# Altium integrated library Xilinx CoolRunner II.IntLib: 88 symbols (part 2 of 5)
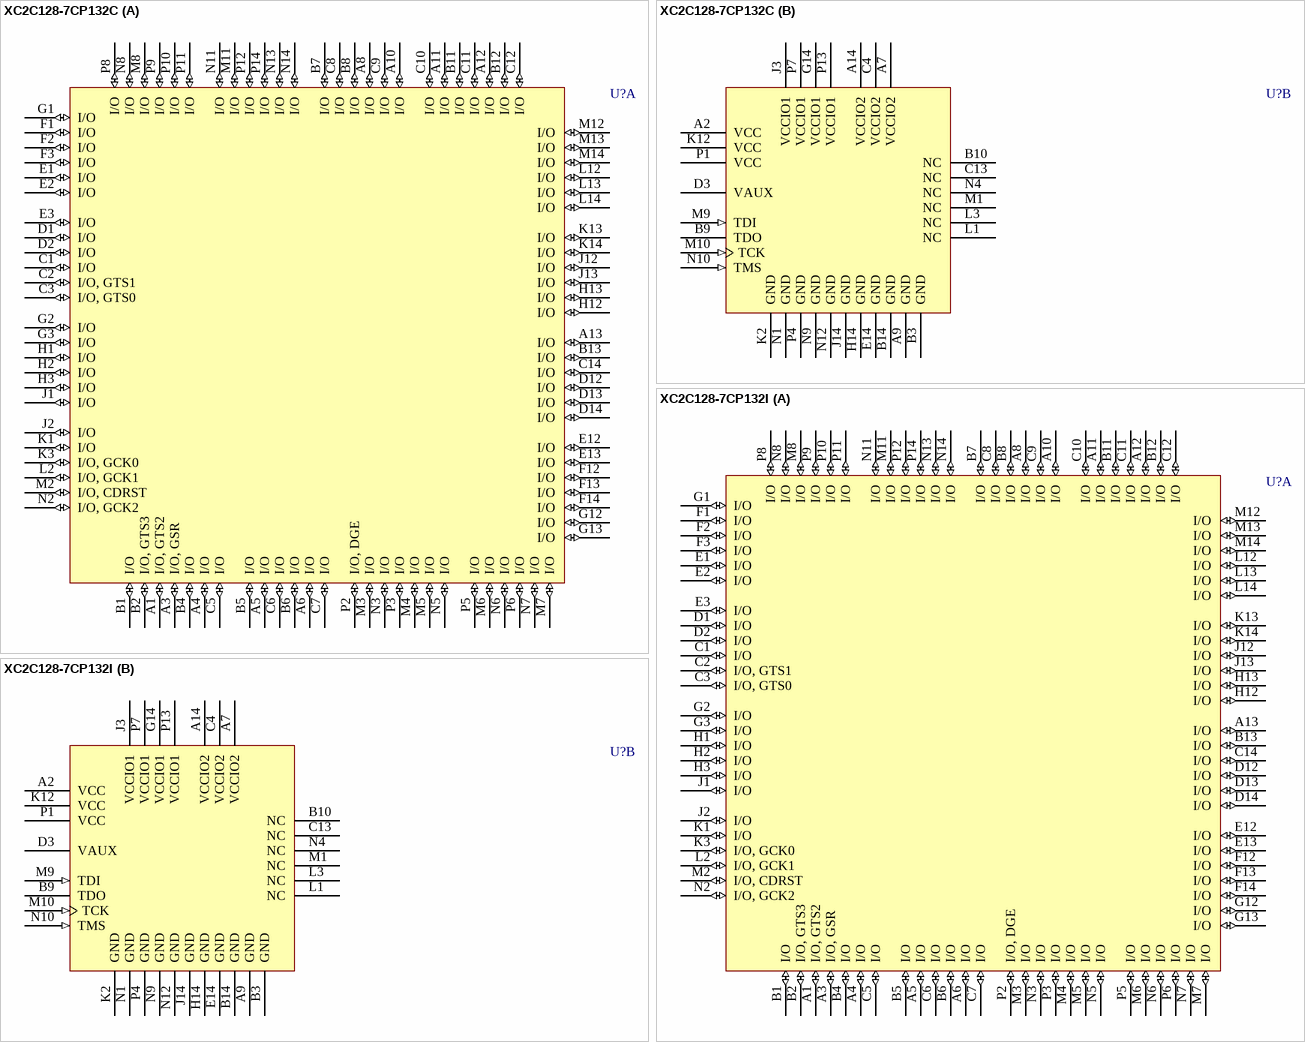
[diagram p41: symbols XC2C128-7CP132C to XC2C128-7CP132I]

## XC2C128-7CP132C
designator U?
CoolRunner-II, 1.8V, 128 Macrocell CPLD, 132-Ball CSP, Commercial Grade; PackageDocument: ver1.2, Apr-2002; Published: 23-Sep-2002; DatasheetDocument: ver2.3, Mar-2004; PackageReference: CP132; Publisher: Altium Limited
footprint CP132 (132-Ball Chip Scale Ball Grid Array 0.5mm Pitch (CP132))
3D model XC2C128-CP132 (132-Ball Chip Scale Ball Grid Array 0.5mm Pitch (CP132))
signal-integrity model XC2C128_CP132 (CoolRunner-II)
part A pins: A1 I/O, GTS2 (io), A3 I/O, GSR (io), A4 I/O (io), A5 I/O (io), A6 I/O (io), A8 I/O (io), A10 I/O (io), A11 I/O (io), A12 I/O (io), A13 I/O (io), B1 I/O (io), B2 I/O, GTS3 (io), B4 I/O (io), B5 I/O (io), B6 I/O (io), B7 I/O (io), B8 I/O (io), B11 I/O (io), B12 I/O (io), B13 I/O (io), C1 I/O (io), C2 I/O, GTS1 (io), C3 I/O, GTS0 (io), C5 I/O (io), C6 I/O (io), C7 I/O (io), C8 I/O (io), C9 I/O (io), C10 I/O (io), C11 I/O (io), C12 I/O (io), C14 I/O (io), D1 I/O (io), D2 I/O (io), D12 I/O (io), D13 I/O (io), D14 I/O (io), E1 I/O (io), E2 I/O (io), E3 I/O (io), E12 I/O (io), E13 I/O (io), F1 I/O (io), F2 I/O (io), F3 I/O (io), F12 I/O (io), F13 I/O (io), F14 I/O (io), G1 I/O (io), G2 I/O (io), G3 I/O (io), G12 I/O (io), G13 I/O (io), H1 I/O (io), H2 I/O (io), H3 I/O (io), H12 I/O (io), H13 I/O (io), J1 I/O (io), J2 I/O (io), J12 I/O (io), J13 I/O (io), K1 I/O (io), K3 I/O, GCK0 (io), K13 I/O (io), K14 I/O (io), L2 I/O, GCK1 (io), L12 I/O (io), L13 I/O (io), L14 I/O (io), M2 I/O, CDRST (io), M3 I/O (io), M4 I/O (io), M5 I/O (io), M6 I/O (io), M7 I/O (io), M8 I/O (io), M11 I/O (io), M12 I/O (io), M13 I/O (io), M14 I/O (io), N2 I/O, GCK2 (io), N3 I/O (io), N5 I/O (io), N6 I/O (io), N7 I/O (io), N8 I/O (io), N11 I/O (io), N13 I/O (io), N14 I/O (io), P2 I/O, DGE (io), P3 I/O (io), P5 I/O (io), P6 I/O (io), P8 I/O (io), P9 I/O (io), P10 I/O (io), P11 I/O (io), P12 I/O (io), P14 I/O (io)
part B pins: A2 VCC (power), A7 VCCIO2 (power), A9 GND (power), A14 VCCIO2 (power), B3 GND (power), B9 TDO (hiz), B10 NC, B14 GND (power), C4 VCCIO2 (power), C13 NC, D3 VAUX (power), E14 GND (power), G14 VCCIO1 (power), H14 GND (power), J3 VCCIO1 (power), J14 GND (power), K2 GND (power), K12 VCC (power), L1 NC, L3 NC, M1 NC, M9 TDI (in), M10 TCK (in), N1 GND (power), N4 NC, N9 GND (power), N10 TMS (in), N12 GND (power), P1 VCC (power), P4 GND (power), P7 VCCIO1 (power), P13 VCCIO1 (power)

## XC2C128-7CP132I
designator U?
CoolRunner-II, 1.8V, 128 Macrocell CPLD, 132-Ball CSP, Industrial Grade; PackageDocument: ver1.2, Apr-2002; Published: 23-Sep-2002; DatasheetDocument: ver2.3, Mar-2004; PackageReference: CP132; Publisher: Altium Limited
footprint CP132 (132-Ball Chip Scale Ball Grid Array 0.5mm Pitch (CP132))
3D model XC2C128-CP132 (132-Ball Chip Scale Ball Grid Array 0.5mm Pitch (CP132))
signal-integrity model XC2C128_CP132 (CoolRunner-II)
part A pins: A1 I/O, GTS2 (io), A3 I/O, GSR (io), A4 I/O (io), A5 I/O (io), A6 I/O (io), A8 I/O (io), A10 I/O (io), A11 I/O (io), A12 I/O (io), A13 I/O (io), B1 I/O (io), B2 I/O, GTS3 (io), B4 I/O (io), B5 I/O (io), B6 I/O (io), B7 I/O (io), B8 I/O (io), B11 I/O (io), B12 I/O (io), B13 I/O (io), C1 I/O (io), C2 I/O, GTS1 (io), C3 I/O, GTS0 (io), C5 I/O (io), C6 I/O (io), C7 I/O (io), C8 I/O (io), C9 I/O (io), C10 I/O (io), C11 I/O (io), C12 I/O (io), C14 I/O (io), D1 I/O (io), D2 I/O (io), D12 I/O (io), D13 I/O (io), D14 I/O (io), E1 I/O (io), E2 I/O (io), E3 I/O (io), E12 I/O (io), E13 I/O (io), F1 I/O (io), F2 I/O (io), F3 I/O (io), F12 I/O (io), F13 I/O (io), F14 I/O (io), G1 I/O (io), G2 I/O (io), G3 I/O (io), G12 I/O (io), G13 I/O (io), H1 I/O (io), H2 I/O (io), H3 I/O (io), H12 I/O (io), H13 I/O (io), J1 I/O (io), J2 I/O (io), J12 I/O (io), J13 I/O (io), K1 I/O (io), K3 I/O, GCK0 (io), K13 I/O (io), K14 I/O (io), L2 I/O, GCK1 (io), L12 I/O (io), L13 I/O (io), L14 I/O (io), M2 I/O, CDRST (io), M3 I/O (io), M4 I/O (io), M5 I/O (io), M6 I/O (io), M7 I/O (io), M8 I/O (io), M11 I/O (io), M12 I/O (io), M13 I/O (io), M14 I/O (io), N2 I/O, GCK2 (io), N3 I/O (io), N5 I/O (io), N6 I/O (io), N7 I/O (io), N8 I/O (io), N11 I/O (io), N13 I/O (io), N14 I/O (io), P2 I/O, DGE (io), P3 I/O (io), P5 I/O (io), P6 I/O (io), P8 I/O (io), P9 I/O (io), P10 I/O (io), P11 I/O (io), P12 I/O (io), P14 I/O (io)
part B pins: A2 VCC (power), A7 VCCIO2 (power), A9 GND (power), A14 VCCIO2 (power), B3 GND (power), B9 TDO (hiz), B10 NC, B14 GND (power), C4 VCCIO2 (power), C13 NC, D3 VAUX (power), E14 GND (power), G14 VCCIO1 (power), H14 GND (power), J3 VCCIO1 (power), J14 GND (power), K2 GND (power), K12 VCC (power), L1 NC, L3 NC, M1 NC, M9 TDI (in), M10 TCK (in), N1 GND (power), N4 NC, N9 GND (power), N10 TMS (in), N12 GND (power), P1 VCC (power), P4 GND (power), P7 VCCIO1 (power), P13 VCCIO1 (power)

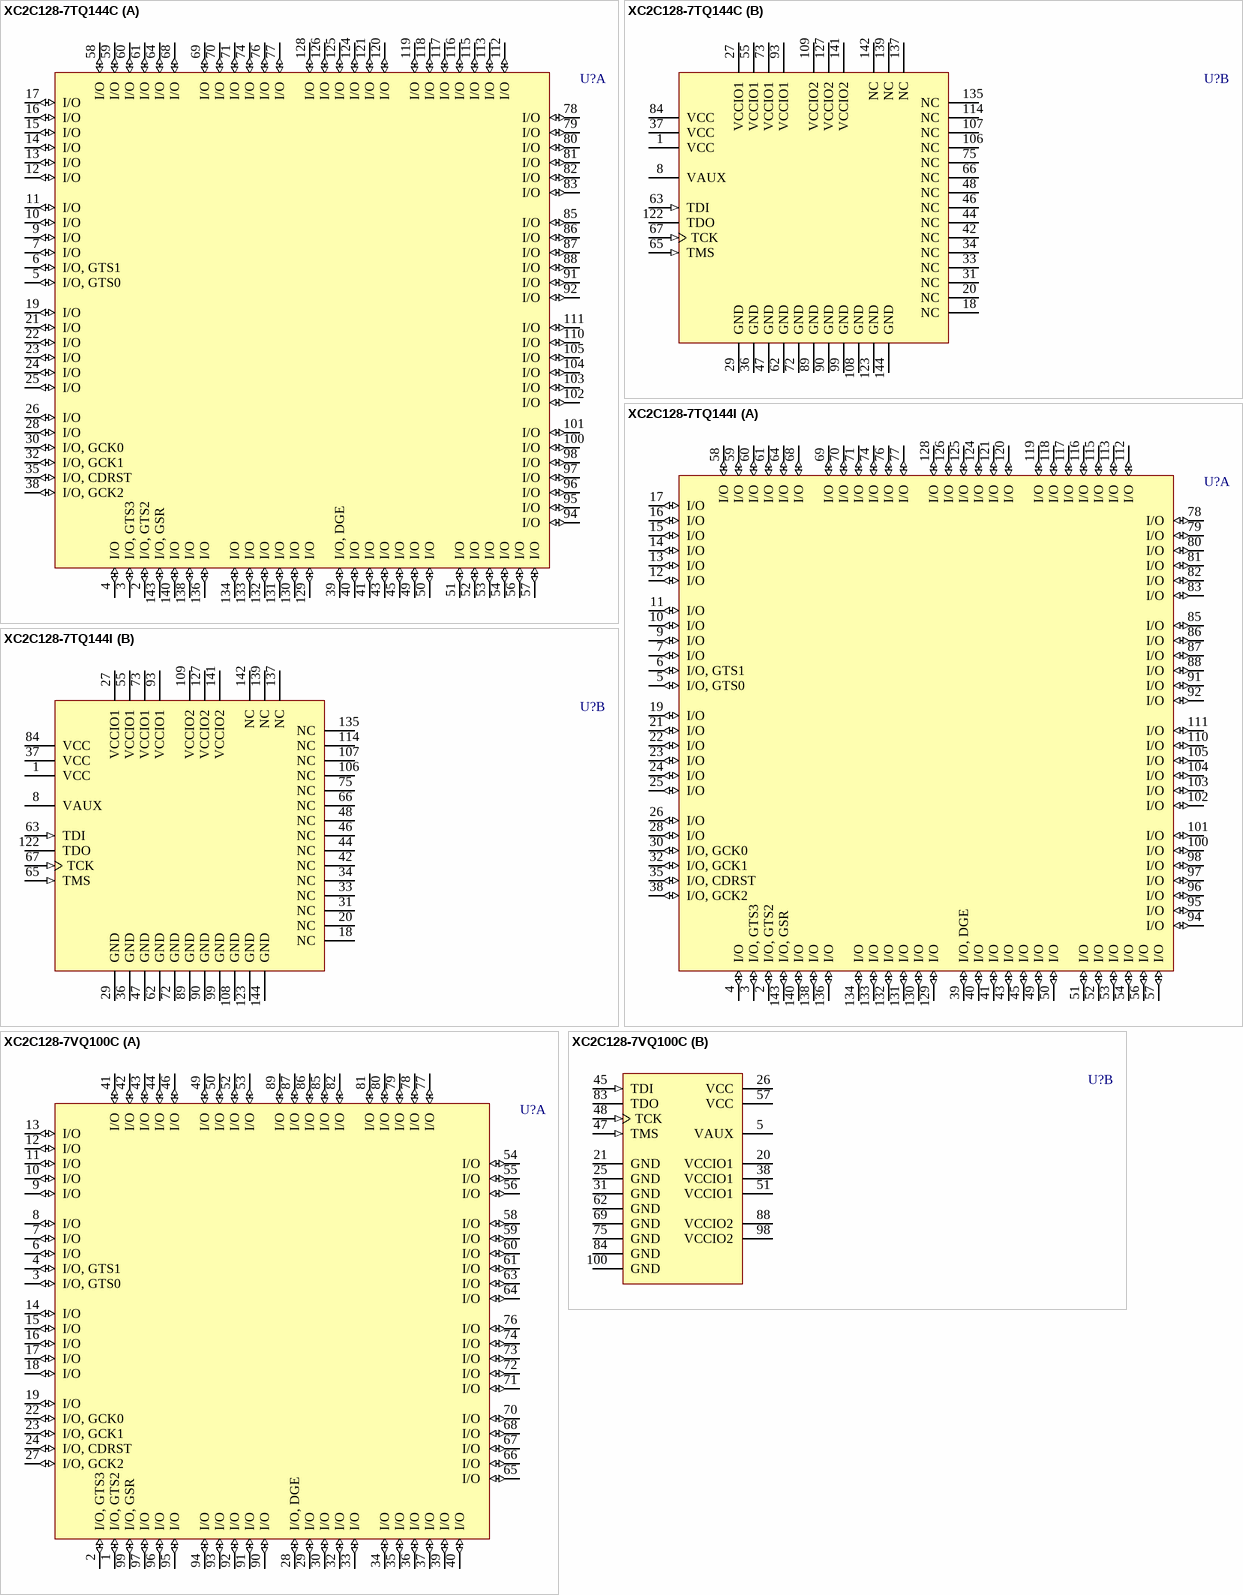
[diagram p7: symbols XC2C128-7TQ144C to XC2C128-7VQ100C]

## XC2C128-7TQ144C
designator U?
CoolRunner-II, 1.8V, 128 Macrocell CPLD, 144-Pin TQFP, Commercial Grade; PackageDocument: ver1.1, Oct-2002; Published: 23-Sep-2002; DatasheetDocument: ver2.3, Mar-2004; PackageReference: TQ144; Publisher: Altium Limited; Code_JEDEC: MS-026-BFB; Code_IPC: SQFP20X20-144
footprint TQ144 (144-Pin Thin Quad Flat Pack (TQ144))
3D model XC2C128-TQ144 (144-Pin Thin Quad Flat Pack (TQ144))
signal-integrity model XC2C128_TQ144 (CoolRunner-II)
part A pins: 2 I/O, GTS2 (io), 3 I/O, GTS3 (io), 4 I/O (io), 5 I/O, GTS0 (io), 6 I/O, GTS1 (io), 7 I/O (io), 9 I/O (io), 10 I/O (io), 11 I/O (io), 12 I/O (io), 13 I/O (io), 14 I/O (io), 15 I/O (io), 16 I/O (io), 17 I/O (io), 19 I/O (io), 21 I/O (io), 22 I/O (io), 23 I/O (io), 24 I/O (io), 25 I/O (io), 26 I/O (io), 28 I/O (io), 30 I/O, GCK0 (io), 32 I/O, GCK1 (io), 35 I/O, CDRST (io), 38 I/O, GCK2 (io), 39 I/O, DGE (io), 40 I/O (io), 41 I/O (io), 43 I/O (io), 45 I/O (io), 49 I/O (io), 50 I/O (io), 51 I/O (io), 52 I/O (io), 53 I/O (io), 54 I/O (io), 56 I/O (io), 57 I/O (io), 58 I/O (io), 59 I/O (io), 60 I/O (io), 61 I/O (io), 64 I/O (io), 68 I/O (io), 69 I/O (io), 70 I/O (io), 71 I/O (io), 74 I/O (io), 76 I/O (io), 77 I/O (io), 78 I/O (io), 79 I/O (io), 80 I/O (io), 81 I/O (io), 82 I/O (io), 83 I/O (io), 85 I/O (io), 86 I/O (io), 87 I/O (io), 88 I/O (io), 91 I/O (io), 92 I/O (io), 94 I/O (io), 95 I/O (io), 96 I/O (io), 97 I/O (io), 98 I/O (io), 100 I/O (io), 101 I/O (io), 102 I/O (io), 103 I/O (io), 104 I/O (io), 105 I/O (io), 110 I/O (io), 111 I/O (io), 112 I/O (io), 113 I/O (io), 115 I/O (io), 116 I/O (io), 117 I/O (io), 118 I/O (io), 119 I/O (io), 120 I/O (io), 121 I/O (io), 124 I/O (io), 125 I/O (io), 126 I/O (io), 128 I/O (io), 129 I/O (io), 130 I/O (io), 131 I/O (io), 132 I/O (io), 133 I/O (io), 134 I/O (io), 136 I/O (io), 138 I/O (io), 140 I/O (io), 143 I/O, GSR (io)
part B pins: 1 VCC (power), 8 VAUX (power), 18 NC, 20 NC, 27 VCCIO1 (power), 29 GND (power), 31 NC, 33 NC, 34 NC, 36 GND (power), 37 VCC (power), 42 NC, 44 NC, 46 NC, 47 GND (power), 48 NC, 55 VCCIO1 (power), 62 GND (power), 63 TDI (in), 65 TMS (in), 66 NC, 67 TCK (in), 72 GND (power), 73 VCCIO1 (power), 75 NC, 84 VCC (power), 89 GND (power), 90 GND (power), 93 VCCIO1 (power), 99 GND (power), 106 NC, 107 NC, 108 GND (power), 109 VCCIO2 (power), 114 NC, 122 TDO (hiz), 123 GND (power), 127 VCCIO2 (power), 135 NC, 137 NC, 139 NC, 141 VCCIO2 (power), 142 NC, 144 GND (power)

## XC2C128-7TQ144I
designator U?
CoolRunner-II, 1.8V, 128 Macrocell CPLD, 144-Pin TQFP, Industrial Grade; PackageDocument: ver1.1, Oct-2002; Published: 23-Sep-2002; DatasheetDocument: ver2.3, Mar-2004; PackageReference: TQ144; Publisher: Altium Limited; Code_JEDEC: MS-026-BFB; Code_IPC: SQFP20X20-144
footprint TQ144 (144-Pin Thin Quad Flat Pack (TQ144))
3D model XC2C128-TQ144 (144-Pin Thin Quad Flat Pack (TQ144))
signal-integrity model XC2C128_TQ144 (CoolRunner-II)
part A pins: 2 I/O, GTS2 (io), 3 I/O, GTS3 (io), 4 I/O (io), 5 I/O, GTS0 (io), 6 I/O, GTS1 (io), 7 I/O (io), 9 I/O (io), 10 I/O (io), 11 I/O (io), 12 I/O (io), 13 I/O (io), 14 I/O (io), 15 I/O (io), 16 I/O (io), 17 I/O (io), 19 I/O (io), 21 I/O (io), 22 I/O (io), 23 I/O (io), 24 I/O (io), 25 I/O (io), 26 I/O (io), 28 I/O (io), 30 I/O, GCK0 (io), 32 I/O, GCK1 (io), 35 I/O, CDRST (io), 38 I/O, GCK2 (io), 39 I/O, DGE (io), 40 I/O (io), 41 I/O (io), 43 I/O (io), 45 I/O (io), 49 I/O (io), 50 I/O (io), 51 I/O (io), 52 I/O (io), 53 I/O (io), 54 I/O (io), 56 I/O (io), 57 I/O (io), 58 I/O (io), 59 I/O (io), 60 I/O (io), 61 I/O (io), 64 I/O (io), 68 I/O (io), 69 I/O (io), 70 I/O (io), 71 I/O (io), 74 I/O (io), 76 I/O (io), 77 I/O (io), 78 I/O (io), 79 I/O (io), 80 I/O (io), 81 I/O (io), 82 I/O (io), 83 I/O (io), 85 I/O (io), 86 I/O (io), 87 I/O (io), 88 I/O (io), 91 I/O (io), 92 I/O (io), 94 I/O (io), 95 I/O (io), 96 I/O (io), 97 I/O (io), 98 I/O (io), 100 I/O (io), 101 I/O (io), 102 I/O (io), 103 I/O (io), 104 I/O (io), 105 I/O (io), 110 I/O (io), 111 I/O (io), 112 I/O (io), 113 I/O (io), 115 I/O (io), 116 I/O (io), 117 I/O (io), 118 I/O (io), 119 I/O (io), 120 I/O (io), 121 I/O (io), 124 I/O (io), 125 I/O (io), 126 I/O (io), 128 I/O (io), 129 I/O (io), 130 I/O (io), 131 I/O (io), 132 I/O (io), 133 I/O (io), 134 I/O (io), 136 I/O (io), 138 I/O (io), 140 I/O (io), 143 I/O, GSR (io)
part B pins: 1 VCC (power), 8 VAUX (power), 18 NC, 20 NC, 27 VCCIO1 (power), 29 GND (power), 31 NC, 33 NC, 34 NC, 36 GND (power), 37 VCC (power), 42 NC, 44 NC, 46 NC, 47 GND (power), 48 NC, 55 VCCIO1 (power), 62 GND (power), 63 TDI (in), 65 TMS (in), 66 NC, 67 TCK (in), 72 GND (power), 73 VCCIO1 (power), 75 NC, 84 VCC (power), 89 GND (power), 90 GND (power), 93 VCCIO1 (power), 99 GND (power), 106 NC, 107 NC, 108 GND (power), 109 VCCIO2 (power), 114 NC, 122 TDO (hiz), 123 GND (power), 127 VCCIO2 (power), 135 NC, 137 NC, 139 NC, 141 VCCIO2 (power), 142 NC, 144 GND (power)

## XC2C128-7VQ100C
designator U?
CoolRunner-II, 1.8V, 128 Macrocell CPLD, 100-Pin VQFP, Commercial Grade; PackageDocument: ver1.1, Oct-2002; Published: 23-Sep-2002; DatasheetDocument: ver2.3, Mar-2004; PackageReference: VQ100; Publisher: Altium Limited; Code_JEDEC: MS-026-AED; Code_IPC: SQFP14X14-100
footprint VQ100 (100-Pin Very Thin Quad Flat Pack (VQ100))
3D model XC2C128-VQ100 (100-Pin Very Thin Quad Flat Pack (VQ100))
signal-integrity model XC2C128_VQ100 (CoolRunner-II)
part A pins: 1 I/O, GTS2 (io), 2 I/O, GTS3 (io), 3 I/O, GTS0 (io), 4 I/O, GTS1 (io), 6 I/O (io), 7 I/O (io), 8 I/O (io), 9 I/O (io), 10 I/O (io), 11 I/O (io), 12 I/O (io), 13 I/O (io), 14 I/O (io), 15 I/O (io), 16 I/O (io), 17 I/O (io), 18 I/O (io), 19 I/O (io), 22 I/O, GCK0 (io), 23 I/O, GCK1 (io), 24 I/O, CDRST (io), 27 I/O, GCK2 (io), 28 I/O, DGE (io), 29 I/O (io), 30 I/O (io), 32 I/O (io), 33 I/O (io), 34 I/O (io), 35 I/O (io), 36 I/O (io), 37 I/O (io), 39 I/O (io), 40 I/O (io), 41 I/O (io), 42 I/O (io), 43 I/O (io), 44 I/O (io), 46 I/O (io), 49 I/O (io), 50 I/O (io), 52 I/O (io), 53 I/O (io), 54 I/O (io), 55 I/O (io), 56 I/O (io), 58 I/O (io), 59 I/O (io), 60 I/O (io), 61 I/O (io), 63 I/O (io), 64 I/O (io), 65 I/O (io), 66 I/O (io), 67 I/O (io), 68 I/O (io), 70 I/O (io), 71 I/O (io), 72 I/O (io), 73 I/O (io), 74 I/O (io), 76 I/O (io), 77 I/O (io), 78 I/O (io), 79 I/O (io), 80 I/O (io), 81 I/O (io), 82 I/O (io), 85 I/O (io), 86 I/O (io), 87 I/O (io), 89 I/O (io), 90 I/O (io), 91 I/O (io), 92 I/O (io), 93 I/O (io), 94 I/O (io), 95 I/O (io), 96 I/O (io), 97 I/O (io), 99 I/O, GSR (io)
part B pins: 5 VAUX (power), 20 VCCIO1 (power), 21 GND (power), 25 GND (power), 26 VCC (power), 31 GND (power), 38 VCCIO1 (power), 45 TDI (in), 47 TMS (in), 48 TCK (in), 51 VCCIO1 (power), 57 VCC (power), 62 GND (power), 69 GND (power), 75 GND (power), 83 TDO (hiz), 84 GND (power), 88 VCCIO2 (power), 98 VCCIO2 (power), 100 GND (power)

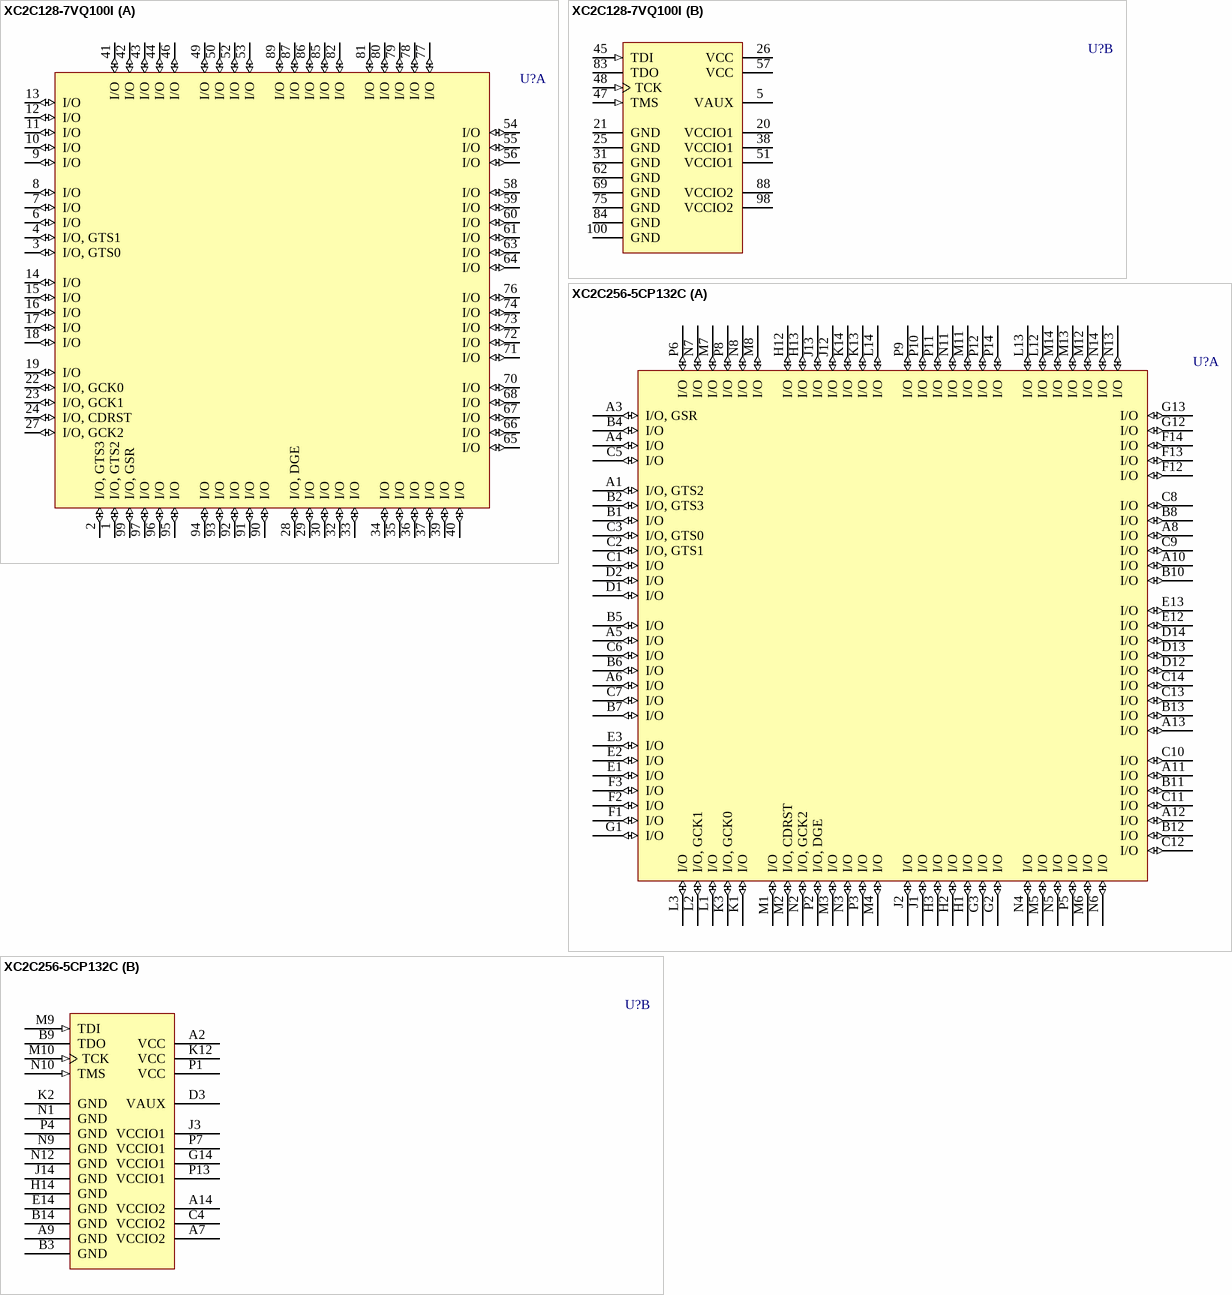
[diagram p8: symbols XC2C128-7VQ100I to XC2C256-5CP132C]

## XC2C128-7VQ100I
designator U?
CoolRunner-II, 1.8V, 128 Macrocell CPLD, 100-Pin VQFP, Industrial Grade; PackageDocument: ver1.1, Oct-2002; Published: 23-Sep-2002; DatasheetDocument: ver2.3, Mar-2004; PackageReference: VQ100; Publisher: Altium Limited; Code_JEDEC: MS-026-AED; Code_IPC: SQFP14X14-100
footprint VQ100 (100-Pin Very Thin Quad Flat Pack (VQ100))
3D model XC2C128-VQ100 (100-Pin Very Thin Quad Flat Pack (VQ100))
signal-integrity model XC2C128_VQ100 (CoolRunner-II)
part A pins: 1 I/O, GTS2 (io), 2 I/O, GTS3 (io), 3 I/O, GTS0 (io), 4 I/O, GTS1 (io), 6 I/O (io), 7 I/O (io), 8 I/O (io), 9 I/O (io), 10 I/O (io), 11 I/O (io), 12 I/O (io), 13 I/O (io), 14 I/O (io), 15 I/O (io), 16 I/O (io), 17 I/O (io), 18 I/O (io), 19 I/O (io), 22 I/O, GCK0 (io), 23 I/O, GCK1 (io), 24 I/O, CDRST (io), 27 I/O, GCK2 (io), 28 I/O, DGE (io), 29 I/O (io), 30 I/O (io), 32 I/O (io), 33 I/O (io), 34 I/O (io), 35 I/O (io), 36 I/O (io), 37 I/O (io), 39 I/O (io), 40 I/O (io), 41 I/O (io), 42 I/O (io), 43 I/O (io), 44 I/O (io), 46 I/O (io), 49 I/O (io), 50 I/O (io), 52 I/O (io), 53 I/O (io), 54 I/O (io), 55 I/O (io), 56 I/O (io), 58 I/O (io), 59 I/O (io), 60 I/O (io), 61 I/O (io), 63 I/O (io), 64 I/O (io), 65 I/O (io), 66 I/O (io), 67 I/O (io), 68 I/O (io), 70 I/O (io), 71 I/O (io), 72 I/O (io), 73 I/O (io), 74 I/O (io), 76 I/O (io), 77 I/O (io), 78 I/O (io), 79 I/O (io), 80 I/O (io), 81 I/O (io), 82 I/O (io), 85 I/O (io), 86 I/O (io), 87 I/O (io), 89 I/O (io), 90 I/O (io), 91 I/O (io), 92 I/O (io), 93 I/O (io), 94 I/O (io), 95 I/O (io), 96 I/O (io), 97 I/O (io), 99 I/O, GSR (io)
part B pins: 5 VAUX (power), 20 VCCIO1 (power), 21 GND (power), 25 GND (power), 26 VCC (power), 31 GND (power), 38 VCCIO1 (power), 45 TDI (in), 47 TMS (in), 48 TCK (in), 51 VCCIO1 (power), 57 VCC (power), 62 GND (power), 69 GND (power), 75 GND (power), 83 TDO (hiz), 84 GND (power), 88 VCCIO2 (power), 98 VCCIO2 (power), 100 GND (power)

## XC2C256-5CP132C
designator U?
CoolRunner-II, 1.8V, 256 Macrocell CPLD, 132-Ball CSP, Commercial Grade; PackageDocument: ver1.2, Apr-2002; Published: 23-Sep-2002; DatasheetDocument: ver2.3, Feb-2004; PackageReference: CP132; Publisher: Altium Limited
footprint CP132 (132-Ball Chip Scale Ball Grid Array 0.5mm Pitch (CP132))
3D model XC2C256-CP132 (132-Ball Chip Scale Ball Grid Array 0.5mm Pitch (CP132))
signal-integrity model XC2C256_CP132 (CoolRunner-II)
part A pins: A1 I/O, GTS2 (io), A3 I/O, GSR (io), A4 I/O (io), A5 I/O (io), A6 I/O (io), A8 I/O (io), A10 I/O (io), A11 I/O (io), A12 I/O (io), A13 I/O (io), B1 I/O (io), B2 I/O, GTS3 (io), B4 I/O (io), B5 I/O (io), B6 I/O (io), B7 I/O (io), B8 I/O (io), B10 I/O (io), B11 I/O (io), B12 I/O (io), B13 I/O (io), C1 I/O (io), C2 I/O, GTS1 (io), C3 I/O, GTS0 (io), C5 I/O (io), C6 I/O (io), C7 I/O (io), C8 I/O (io), C9 I/O (io), C10 I/O (io), C11 I/O (io), C12 I/O (io), C13 I/O (io), C14 I/O (io), D1 I/O (io), D2 I/O (io), D12 I/O (io), D13 I/O (io), D14 I/O (io), E1 I/O (io), E2 I/O (io), E3 I/O (io), E12 I/O (io), E13 I/O (io), F1 I/O (io), F2 I/O (io), F3 I/O (io), F12 I/O (io), F13 I/O (io), F14 I/O (io), G1 I/O (io), G2 I/O (io), G3 I/O (io), G12 I/O (io), G13 I/O (io), H1 I/O (io), H2 I/O (io), H3 I/O (io), H12 I/O (io), H13 I/O (io), J1 I/O (io), J2 I/O (io), J12 I/O (io), J13 I/O (io), K1 I/O (io), K3 I/O, GCK0 (io), K13 I/O (io), K14 I/O (io), L1 I/O (io), L2 I/O, GCK1 (io), L3 I/O (io), L12 I/O (io), L13 I/O (io), L14 I/O (io), M1 I/O (io), M2 I/O, CDRST (io), M3 I/O (io), M4 I/O (io), M5 I/O (io), M6 I/O (io), M7 I/O (io), M8 I/O (io), M11 I/O (io), M12 I/O (io), M13 I/O (io), M14 I/O (io), N2 I/O, GCK2 (io), N3 I/O (io), N4 I/O (io), N5 I/O (io), N6 I/O (io), N7 I/O (io), N8 I/O (io), N11 I/O (io), N13 I/O (io), N14 I/O (io), P2 I/O, DGE (io), P3 I/O (io), P5 I/O (io), P6 I/O (io), P8 I/O (io), P9 I/O (io), P10 I/O (io), P11 I/O (io), P12 I/O (io), P14 I/O (io)
part B pins: A2 VCC (power), A7 VCCIO2 (power), A9 GND (power), A14 VCCIO2 (power), B3 GND (power), B9 TDO (hiz), B14 GND (power), C4 VCCIO2 (power), D3 VAUX (power), E14 GND (power), G14 VCCIO1 (power), H14 GND (power), J3 VCCIO1 (power), J14 GND (power), K2 GND (power), K12 VCC (power), M9 TDI (in), M10 TCK (in), N1 GND (power), N9 GND (power), N10 TMS (in), N12 GND (power), P1 VCC (power), P4 GND (power), P7 VCCIO1 (power), P13 VCCIO1 (power)

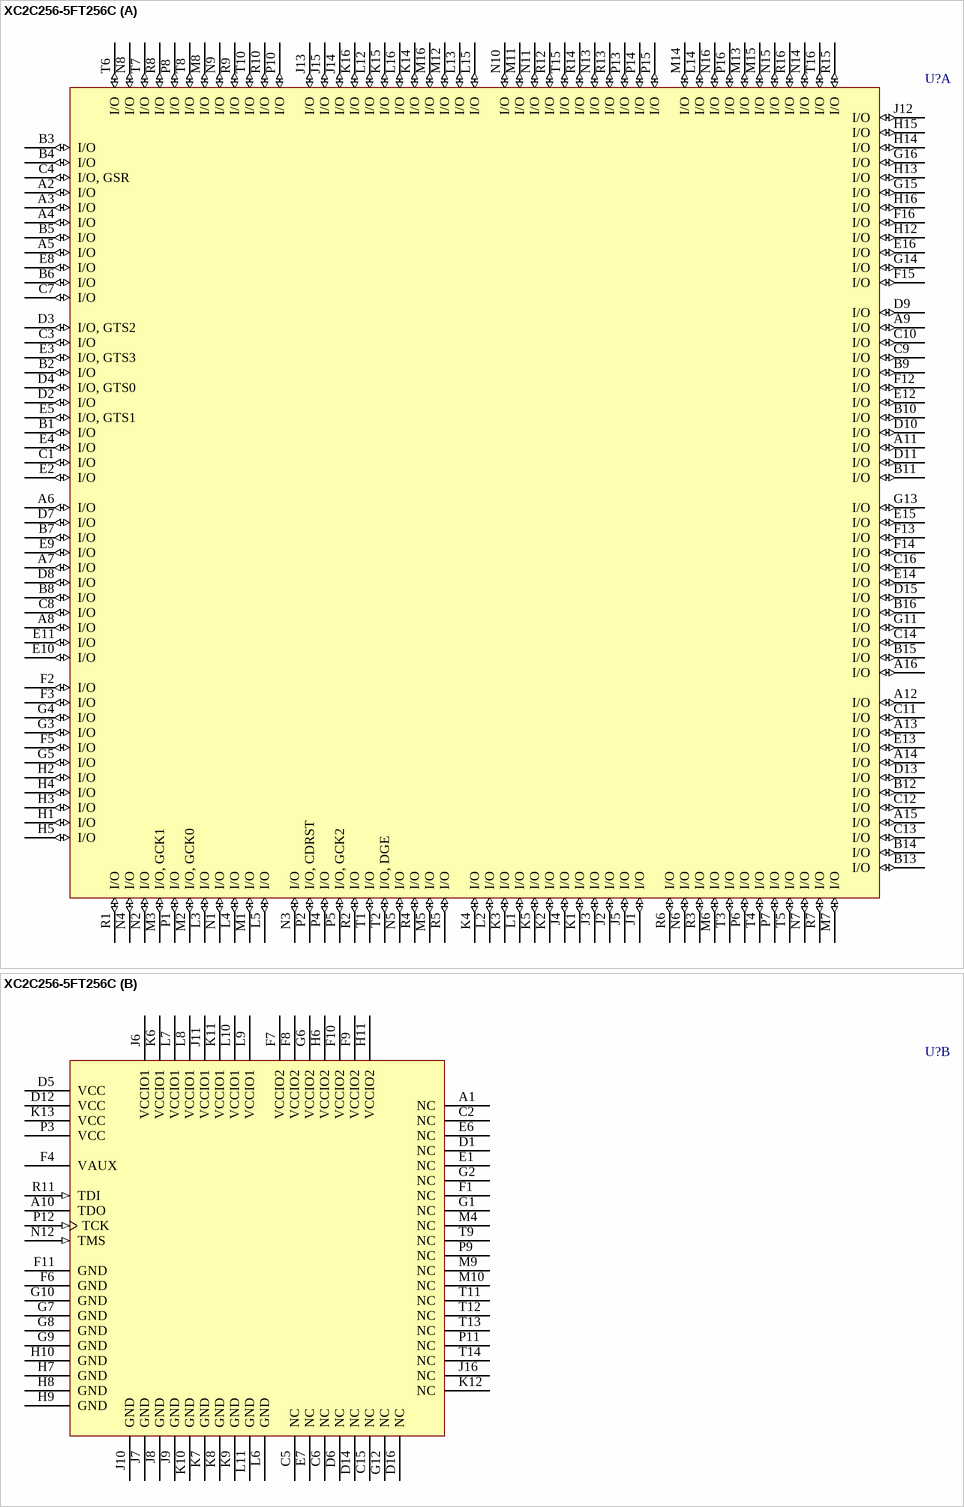
[diagram p9: symbol XC2C256-5FT256C]

## XC2C256-5FT256C
designator U?
CoolRunner-II, 1.8V, 256 Macrocell CPLD, 256-Ball FTBGA, Commercial Grade; PackageDocument: ver1.0, Apr-2001; Published: 23-Sep-2002; DatasheetDocument: ver2.3, Feb-2004; PackageReference: FT256; Publisher: Altium Limited; Code_JEDEC: MS-034-AAF-1*
footprint FT256 (256-Ball Fine Pitch Thin Ball Grid Array (FT256))
3D model XC2C256-FT256 (256-Ball Fine Pitch Thin Ball Grid Array (FT256))
signal-integrity model XC2C256_FT256 (CoolRunner-II)
part A pins: A2 I/O (io), A3 I/O (io), A4 I/O (io), A5 I/O (io), A6 I/O (io), A7 I/O (io), A8 I/O (io), A9 I/O (io), A11 I/O (io), A12 I/O (io), A13 I/O (io), A14 I/O (io), A15 I/O (io), A16 I/O (io), B1 I/O (io), B2 I/O (io), B3 I/O (io), B4 I/O (io), B5 I/O (io), B6 I/O (io), B7 I/O (io), B8 I/O (io), B9 I/O (io), B10 I/O (io), B11 I/O (io), B12 I/O (io), B13 I/O (io), B14 I/O (io), B15 I/O (io), B16 I/O (io), C1 I/O (io), C3 I/O (io), C4 I/O, GSR (io), C7 I/O (io), C8 I/O (io), C9 I/O (io), C10 I/O (io), C11 I/O (io), C12 I/O (io), C13 I/O (io), C14 I/O (io), C16 I/O (io), D2 I/O (io), D3 I/O, GTS2 (io), D4 I/O, GTS0 (io), D7 I/O (io), D8 I/O (io), D9 I/O (io), D10 I/O (io), D11 I/O (io), D13 I/O (io), D15 I/O (io), E2 I/O (io), E3 I/O, GTS3 (io), E4 I/O (io), E5 I/O, GTS1 (io), E8 I/O (io), E9 I/O (io), E10 I/O (io), E11 I/O (io), E12 I/O (io), E13 I/O (io), E14 I/O (io), E15 I/O (io), E16 I/O (io), F2 I/O (io), F3 I/O (io), F5 I/O (io), F12 I/O (io), F13 I/O (io), F14 I/O (io), F15 I/O (io), F16 I/O (io), G3 I/O (io), G4 I/O (io), G5 I/O (io), G11 I/O (io), G13 I/O (io), G14 I/O (io), G15 I/O (io), G16 I/O (io), H1 I/O (io), H2 I/O (io), H3 I/O (io), H4 I/O (io), H5 I/O (io), H12 I/O (io), H13 I/O (io), H14 I/O (io), H15 I/O (io), H16 I/O (io), J1 I/O (io), J2 I/O (io), J3 I/O (io), J4 I/O (io), J5 I/O (io), J12 I/O (io), J13 I/O (io), J14 I/O (io), J15 I/O (io), K1 I/O (io), K2 I/O (io), K3 I/O (io), K4 I/O (io), K5 I/O (io), K14 I/O (io), K15 I/O (io), K16 I/O (io), L1 I/O (io), L2 I/O (io), L3 I/O (io), L4 I/O (io), L5 I/O (io), L12 I/O (io), L13 I/O (io), L14 I/O (io), L15 I/O (io), L16 I/O (io), M1 I/O (io), M2 I/O, GCK0 (io), M3 I/O, GCK1 (io), M5 I/O (io), M6 I/O (io), M7 I/O (io), M8 I/O (io), M11 I/O (io), M12 I/O (io), M13 I/O (io), M14 I/O (io), M15 I/O (io), M16 I/O (io), N1 I/O (io), N2 I/O (io), N3 I/O (io), N4 I/O (io), N5 I/O (io), N6 I/O (io), N7 I/O (io), N8 I/O (io), N9 I/O (io), N10 I/O (io), N11 I/O (io), N13 I/O (io), N14 I/O (io), N15 I/O (io), N16 I/O (io), P1 I/O (io), P2 I/O, CDRST (io), P4 I/O (io), P5 I/O, GCK2 (io), P6 I/O (io), P7 I/O (io), P8 I/O (io), P10 I/O (io), P13 I/O (io), P14 I/O (io), P15 I/O (io), P16 I/O (io), R1 I/O (io), R2 I/O (io), R3 I/O (io), R4 I/O (io), R5 I/O (io), R6 I/O (io), R7 I/O (io), R8 I/O (io), R9 I/O (io), R10 I/O (io), R12 I/O (io), R13 I/O (io), R14 I/O (io), R15 I/O (io), R16 I/O (io), T1 I/O (io), T2 I/O, DGE (io), T3 I/O (io), T4 I/O (io), T5 I/O (io), T6 I/O (io), T7 I/O (io), T8 I/O (io), T10 I/O (io), T15 I/O (io), T16 I/O (io)
part B pins: A1 NC, A10 TDO (hiz), C2 NC, C5 NC, C6 NC, C15 NC, D1 NC, D5 VCC (power), D6 NC, D12 VCC (power), D14 NC, D16 NC, E1 NC, E6 NC, E7 NC, F1 NC, F4 VAUX (power), F6 GND (power), F7 VCCIO2 (power), F8 VCCIO2 (power), F9 VCCIO2 (power), F10 VCCIO2 (power), F11 GND (power), G1 NC, G2 NC, G6 VCCIO2 (power), G7 GND (power), G8 GND (power), G9 GND (power), G10 GND (power), G12 NC, H6 VCCIO2 (power), H7 GND (power), H8 GND (power), H9 GND (power), H10 GND (power), H11 VCCIO2 (power), J6 VCCIO1 (power), J7 GND (power), J8 GND (power), J9 GND (power), J10 GND (power), J11 VCCIO1 (power), J16 NC, K6 VCCIO1 (power), K7 GND (power), K8 GND (power), K9 GND (power), K10 GND (power), K11 VCCIO1 (power), K12 NC, K13 VCC (power), L6 GND (power), L7 VCCIO1 (power), L8 VCCIO1 (power), L9 VCCIO1 (power), L10 VCCIO1 (power), L11 GND (power), M4 NC, M9 NC, M10 NC, N12 TMS (in), P3 VCC (power), P9 NC, P11 NC, P12 TCK (in), R11 TDI (in), T9 NC, T11 NC, T12 NC, T13 NC, T14 NC

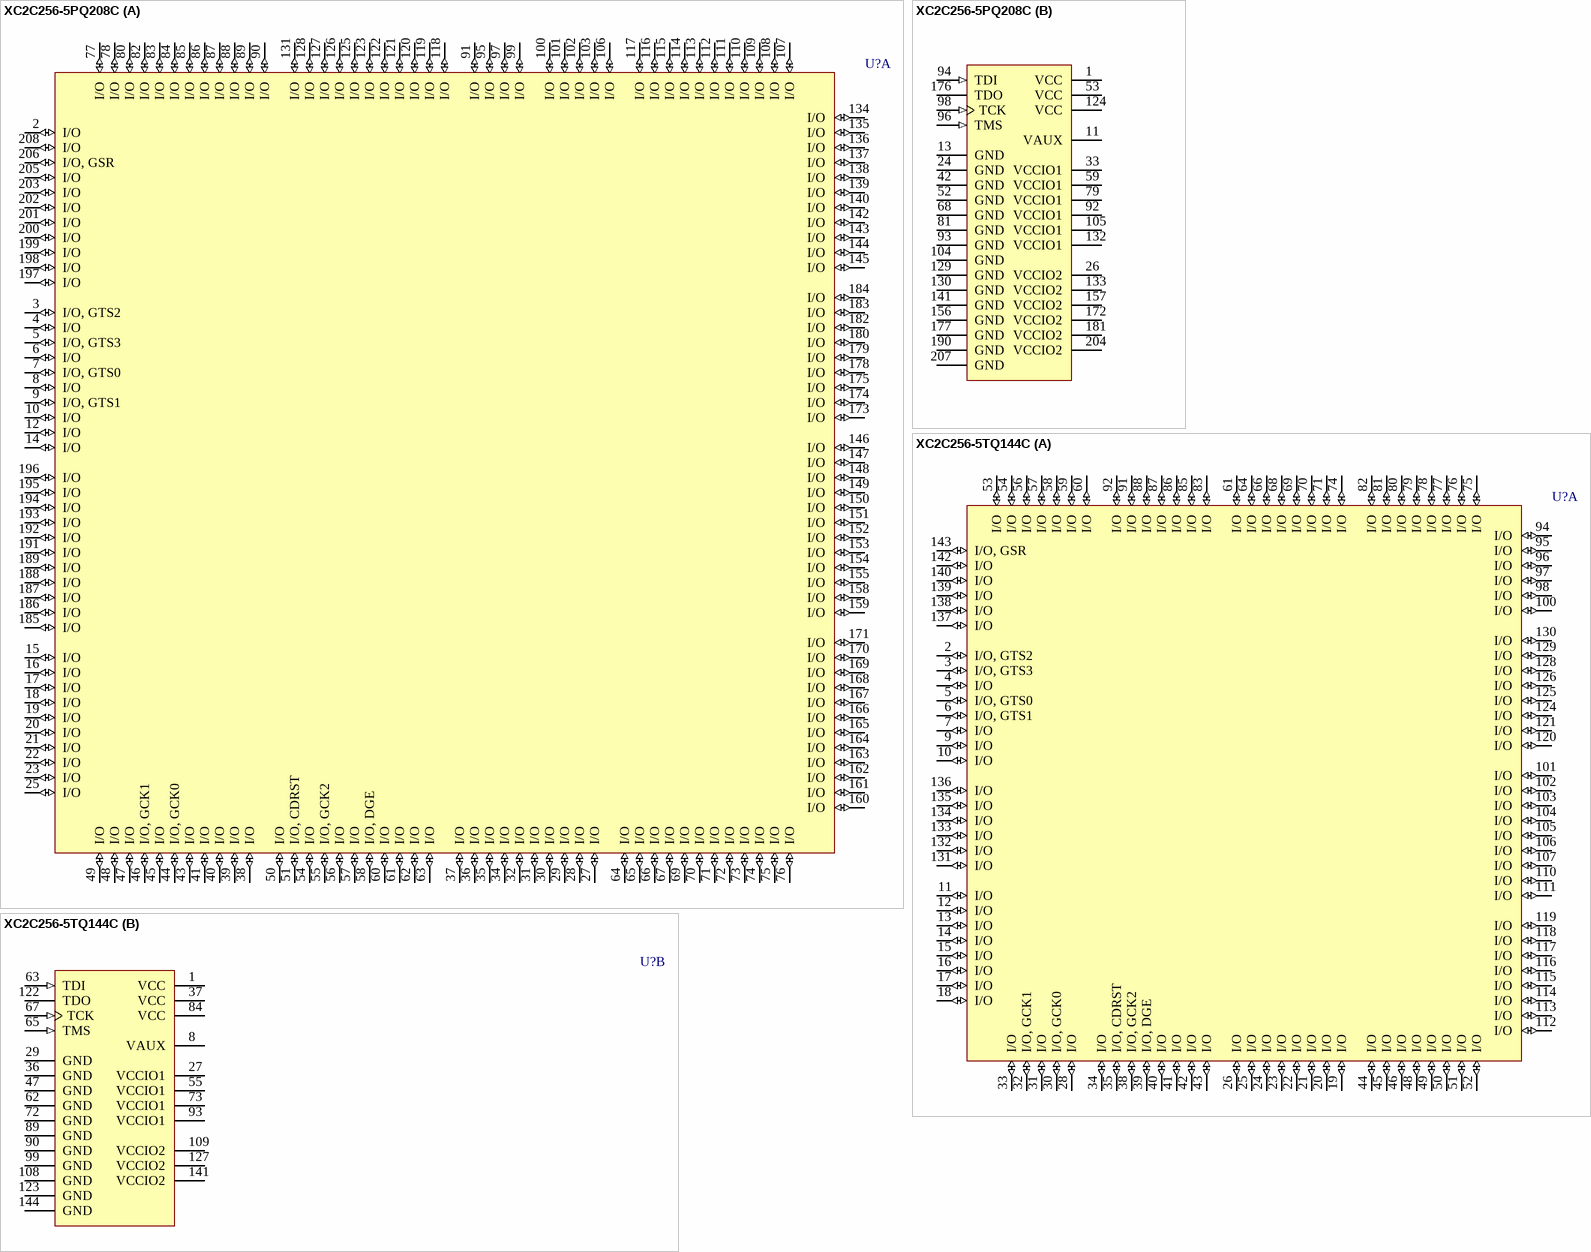
[diagram p10: symbols XC2C256-5PQ208C to XC2C256-5TQ144C]

## XC2C256-5PQ208C
designator U?
CoolRunner-II, 1.8V, 256 Macrocell CPLD, 208-Pin PQFP, Commercial Grade; PackageDocument: ver1.1, Oct-2002; Published: 23-Sep-2002; DatasheetDocument: ver2.3, Feb-2004; PackageReference: PQ208; Publisher: Altium Limited; Code_JEDEC: MS-029-FA-1
footprint PQ208 (208-Pin Plastic Quad Flat Pack (PQ208))
3D model XC2C256-PQ208 (208-Pin Plastic Quad Flat Pack (PQ208))
signal-integrity model XC2C256_PQ208 (CoolRunner-II)
part A pins: 2 I/O (io), 3 I/O, GTS2 (io), 4 I/O (io), 5 I/O, GTS3 (io), 6 I/O (io), 7 I/O, GTS0 (io), 8 I/O (io), 9 I/O, GTS1 (io), 10 I/O (io), 12 I/O (io), 14 I/O (io), 15 I/O (io), 16 I/O (io), 17 I/O (io), 18 I/O (io), 19 I/O (io), 20 I/O (io), 21 I/O (io), 22 I/O (io), 23 I/O (io), 25 I/O (io), 27 I/O (io), 28 I/O (io), 29 I/O (io), 30 I/O (io), 31 I/O (io), 32 I/O (io), 34 I/O (io), 35 I/O (io), 36 I/O (io), 37 I/O (io), 38 I/O (io), 39 I/O (io), 40 I/O (io), 41 I/O (io), 43 I/O (io), 44 I/O, GCK0 (io), 45 I/O (io), 46 I/O, GCK1 (io), 47 I/O (io), 48 I/O (io), 49 I/O (io), 50 I/O (io), 51 I/O, CDRST (io), 54 I/O (io), 55 I/O, GCK2 (io), 56 I/O (io), 57 I/O (io), 58 I/O, DGE (io), 60 I/O (io), 61 I/O (io), 62 I/O (io), 63 I/O (io), 64 I/O (io), 65 I/O (io), 66 I/O (io), 67 I/O (io), 69 I/O (io), 70 I/O (io), 71 I/O (io), 72 I/O (io), 73 I/O (io), 74 I/O (io), 75 I/O (io), 76 I/O (io), 77 I/O (io), 78 I/O (io), 80 I/O (io), 82 I/O (io), 83 I/O (io), 84 I/O (io), 85 I/O (io), 86 I/O (io), 87 I/O (io), 88 I/O (io), 89 I/O (io), 90 I/O (io), 91 I/O (io), 95 I/O (io), 97 I/O (io), 99 I/O (io), 100 I/O (io), 101 I/O (io), 102 I/O (io), 103 I/O (io), 106 I/O (io), 107 I/O (io), 108 I/O (io), 109 I/O (io), 110 I/O (io), 111 I/O (io), 112 I/O (io), 113 I/O (io), 114 I/O (io), 115 I/O (io), 116 I/O (io), 117 I/O (io), 118 I/O (io), 119 I/O (io), 120 I/O (io), 121 I/O (io), 122 I/O (io), 123 I/O (io), 125 I/O (io), 126 I/O (io), 127 I/O (io), 128 I/O (io), 131 I/O (io), 134 I/O (io), 135 I/O (io), 136 I/O (io), 137 I/O (io), 138 I/O (io), 139 I/O (io), 140 I/O (io), 142 I/O (io), 143 I/O (io), 144 I/O (io), 145 I/O (io), 146 I/O (io), 147 I/O (io), 148 I/O (io), 149 I/O (io), 150 I/O (io), 151 I/O (io), 152 I/O (io), 153 I/O (io), 154 I/O (io), 155 I/O (io), 158 I/O (io), 159 I/O (io), 160 I/O (io), 161 I/O (io), 162 I/O (io), 163 I/O (io), 164 I/O (io), 165 I/O (io), 166 I/O (io), 167 I/O (io), 168 I/O (io), 169 I/O (io), 170 I/O (io), 171 I/O (io), 173 I/O (io), 174 I/O (io), 175 I/O (io), 178 I/O (io), 179 I/O (io), 180 I/O (io), 182 I/O (io), 183 I/O (io), 184 I/O (io), 185 I/O (io), 186 I/O (io), 187 I/O (io), 188 I/O (io), 189 I/O (io), 191 I/O (io), 192 I/O (io), 193 I/O (io), 194 I/O (io), 195 I/O (io), 196 I/O (io), 197 I/O (io), 198 I/O (io), 199 I/O (io), 200 I/O (io), 201 I/O (io), 202 I/O (io), 203 I/O (io), 205 I/O (io), 206 I/O, GSR (io), 208 I/O (io)
part B pins: 1 VCC (power), 11 VAUX (power), 13 GND (power), 24 GND (power), 26 VCCIO2 (power), 33 VCCIO1 (power), 42 GND (power), 52 GND (power), 53 VCC (power), 59 VCCIO1 (power), 68 GND (power), 79 VCCIO1 (power), 81 GND (power), 92 VCCIO1 (power), 93 GND (power), 94 TDI (in), 96 TMS (in), 98 TCK (in), 104 GND (power), 105 VCCIO1 (power), 124 VCC (power), 129 GND (power), 130 GND (power), 132 VCCIO1 (power), 133 VCCIO2 (power), 141 GND (power), 156 GND (power), 157 VCCIO2 (power), 172 VCCIO2 (power), 176 TDO (hiz), 177 GND (power), 181 VCCIO2 (power), 190 GND (power), 204 VCCIO2 (power), 207 GND (power)

## XC2C256-5TQ144C
designator U?
CoolRunner-II, 1.8V, 256 Macrocell CPLD, 144-Pin TQFP, Commercial Grade; PackageDocument: ver1.1, Oct-2002; Published: 23-Sep-2002; DatasheetDocument: ver2.3, Feb-2004; PackageReference: TQ144; Publisher: Altium Limited; Code_JEDEC: MS-026-BFB; Code_IPC: SQFP20X20-144
footprint TQ144 (144-Pin Thin Quad Flat Pack (TQ144))
3D model XC2C256-TQ144 (144-Pin Thin Quad Flat Pack (TQ144))
signal-integrity model XC2C256_TQ144 (CoolRunner-II)
part A pins: 2 I/O, GTS2 (io), 3 I/O, GTS3 (io), 4 I/O (io), 5 I/O, GTS0 (io), 6 I/O, GTS1 (io), 7 I/O (io), 9 I/O (io), 10 I/O (io), 11 I/O (io), 12 I/O (io), 13 I/O (io), 14 I/O (io), 15 I/O (io), 16 I/O (io), 17 I/O (io), 18 I/O (io), 19 I/O (io), 20 I/O (io), 21 I/O (io), 22 I/O (io), 23 I/O (io), 24 I/O (io), 25 I/O (io), 26 I/O (io), 28 I/O (io), 30 I/O, GCK0 (io), 31 I/O (io), 32 I/O, GCK1 (io), 33 I/O (io), 34 I/O (io), 35 I/O, CDRST (io), 38 I/O, GCK2 (io), 39 I/O, DGE (io), 40 I/O (io), 41 I/O (io), 42 I/O (io), 43 I/O (io), 44 I/O (io), 45 I/O (io), 46 I/O (io), 48 I/O (io), 49 I/O (io), 50 I/O (io), 51 I/O (io), 52 I/O (io), 53 I/O (io), 54 I/O (io), 56 I/O (io), 57 I/O (io), 58 I/O (io), 59 I/O (io), 60 I/O (io), 61 I/O (io), 64 I/O (io), 66 I/O (io), 68 I/O (io), 69 I/O (io), 70 I/O (io), 71 I/O (io), 74 I/O (io), 75 I/O (io), 76 I/O (io), 77 I/O (io), 78 I/O (io), 79 I/O (io), 80 I/O (io), 81 I/O (io), 82 I/O (io), 83 I/O (io), 85 I/O (io), 86 I/O (io), 87 I/O (io), 88 I/O (io), 91 I/O (io), 92 I/O (io), 94 I/O (io), 95 I/O (io), 96 I/O (io), 97 I/O (io), 98 I/O (io), 100 I/O (io), 101 I/O (io), 102 I/O (io), 103 I/O (io), 104 I/O (io), 105 I/O (io), 106 I/O (io), 107 I/O (io), 110 I/O (io), 111 I/O (io), 112 I/O (io), 113 I/O (io), 114 I/O (io), 115 I/O (io), 116 I/O (io), 117 I/O (io), 118 I/O (io), 119 I/O (io), 120 I/O (io), 121 I/O (io), 124 I/O (io), 125 I/O (io), 126 I/O (io), 128 I/O (io), 129 I/O (io), 130 I/O (io), 131 I/O (io), 132 I/O (io), 133 I/O (io), 134 I/O (io), 135 I/O (io), 136 I/O (io), 137 I/O (io), 138 I/O (io), 139 I/O (io), 140 I/O (io), 142 I/O (io), 143 I/O, GSR (io)
part B pins: 1 VCC (power), 8 VAUX (power), 27 VCCIO1 (power), 29 GND (power), 36 GND (power), 37 VCC (power), 47 GND (power), 55 VCCIO1 (power), 62 GND (power), 63 TDI (in), 65 TMS (in), 67 TCK (in), 72 GND (power), 73 VCCIO1 (power), 84 VCC (power), 89 GND (power), 90 GND (power), 93 VCCIO1 (power), 99 GND (power), 108 GND (power), 109 VCCIO2 (power), 122 TDO (hiz), 123 GND (power), 127 VCCIO2 (power), 141 VCCIO2 (power), 144 GND (power)

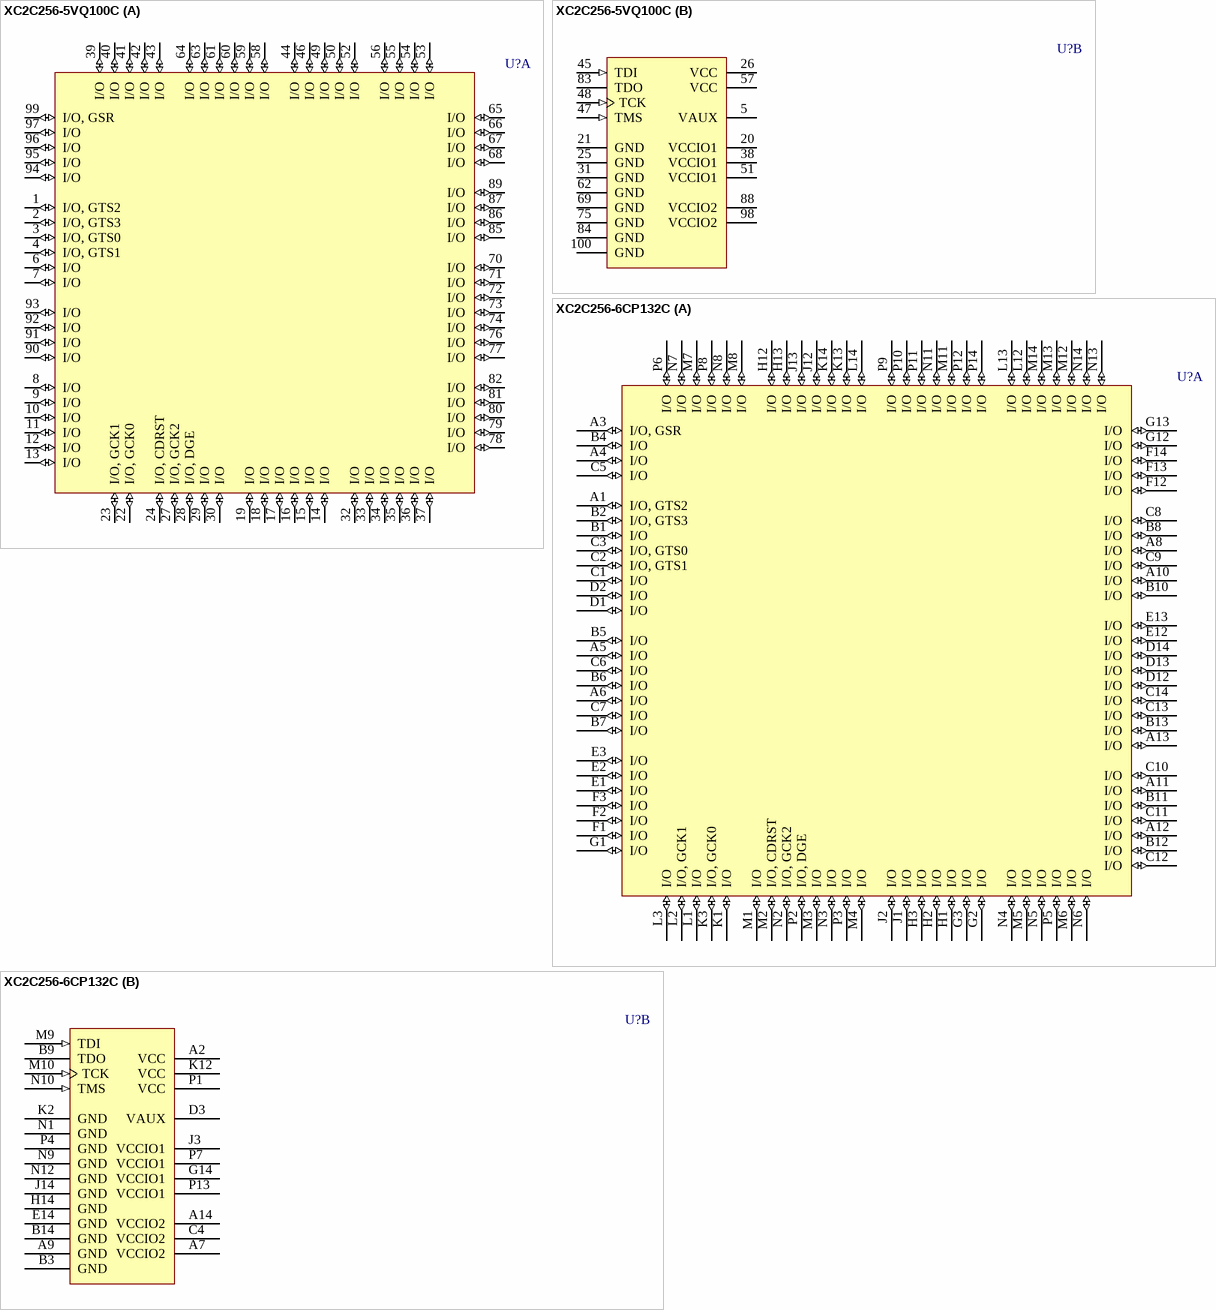
[diagram p11: symbols XC2C256-5VQ100C to XC2C256-6CP132C]

## XC2C256-5VQ100C
designator U?
CoolRunner-II, 1.8V, 256 Macrocell CPLD, 100-Pin VQFP, Commercial Grade; PackageDocument: ver1.1, Oct-2002; Published: 23-Sep-2002; DatasheetDocument: ver2.3, Feb-2004; PackageReference: VQ100; Publisher: Altium Limited; Code_JEDEC: MS-026-AED; Code_IPC: SQFP14X14-100
footprint VQ100 (100-Pin Very Thin Quad Flat Pack (VQ100))
3D model XC2C256-VQ100 (100-Pin Very Thin Quad Flat Pack (VQ100))
signal-integrity model XC2C256_VQ100 (CoolRunner-II)
part A pins: 1 I/O, GTS2 (io), 2 I/O, GTS3 (io), 3 I/O, GTS0 (io), 4 I/O, GTS1 (io), 6 I/O (io), 7 I/O (io), 8 I/O (io), 9 I/O (io), 10 I/O (io), 11 I/O (io), 12 I/O (io), 13 I/O (io), 14 I/O (io), 15 I/O (io), 16 I/O (io), 17 I/O (io), 18 I/O (io), 19 I/O (io), 22 I/O, GCK0 (io), 23 I/O, GCK1 (io), 24 I/O, CDRST (io), 27 I/O, GCK2 (io), 28 I/O, DGE (io), 29 I/O (io), 30 I/O (io), 32 I/O (io), 33 I/O (io), 34 I/O (io), 35 I/O (io), 36 I/O (io), 37 I/O (io), 39 I/O (io), 40 I/O (io), 41 I/O (io), 42 I/O (io), 43 I/O (io), 44 I/O (io), 46 I/O (io), 49 I/O (io), 50 I/O (io), 52 I/O (io), 53 I/O (io), 54 I/O (io), 55 I/O (io), 56 I/O (io), 58 I/O (io), 59 I/O (io), 60 I/O (io), 61 I/O (io), 63 I/O (io), 64 I/O (io), 65 I/O (io), 66 I/O (io), 67 I/O (io), 68 I/O (io), 70 I/O (io), 71 I/O (io), 72 I/O (io), 73 I/O (io), 74 I/O (io), 76 I/O (io), 77 I/O (io), 78 I/O (io), 79 I/O (io), 80 I/O (io), 81 I/O (io), 82 I/O (io), 85 I/O (io), 86 I/O (io), 87 I/O (io), 89 I/O (io), 90 I/O (io), 91 I/O (io), 92 I/O (io), 93 I/O (io), 94 I/O (io), 95 I/O (io), 96 I/O (io), 97 I/O (io), 99 I/O, GSR (io)
part B pins: 5 VAUX (power), 20 VCCIO1 (power), 21 GND (power), 25 GND (power), 26 VCC (power), 31 GND (power), 38 VCCIO1 (power), 45 TDI (in), 47 TMS (in), 48 TCK (in), 51 VCCIO1 (power), 57 VCC (power), 62 GND (power), 69 GND (power), 75 GND (power), 83 TDO (hiz), 84 GND (power), 88 VCCIO2 (power), 98 VCCIO2 (power), 100 GND (power)

## XC2C256-6CP132C
designator U?
CoolRunner-II, 1.8V, 256 Macrocell CPLD, 132-Ball CSP, Commercial Grade; PackageDocument: ver1.2, Apr-2002; Published: 23-Sep-2002; DatasheetDocument: ver2.3, Feb-2004; PackageReference: CP132; Publisher: Altium Limited
footprint CP132 (132-Ball Chip Scale Ball Grid Array 0.5mm Pitch (CP132))
3D model XC2C256-CP132 (132-Ball Chip Scale Ball Grid Array 0.5mm Pitch (CP132))
signal-integrity model XC2C256_CP132 (CoolRunner-II)
part A pins: A1 I/O, GTS2 (io), A3 I/O, GSR (io), A4 I/O (io), A5 I/O (io), A6 I/O (io), A8 I/O (io), A10 I/O (io), A11 I/O (io), A12 I/O (io), A13 I/O (io), B1 I/O (io), B2 I/O, GTS3 (io), B4 I/O (io), B5 I/O (io), B6 I/O (io), B7 I/O (io), B8 I/O (io), B10 I/O (io), B11 I/O (io), B12 I/O (io), B13 I/O (io), C1 I/O (io), C2 I/O, GTS1 (io), C3 I/O, GTS0 (io), C5 I/O (io), C6 I/O (io), C7 I/O (io), C8 I/O (io), C9 I/O (io), C10 I/O (io), C11 I/O (io), C12 I/O (io), C13 I/O (io), C14 I/O (io), D1 I/O (io), D2 I/O (io), D12 I/O (io), D13 I/O (io), D14 I/O (io), E1 I/O (io), E2 I/O (io), E3 I/O (io), E12 I/O (io), E13 I/O (io), F1 I/O (io), F2 I/O (io), F3 I/O (io), F12 I/O (io), F13 I/O (io), F14 I/O (io), G1 I/O (io), G2 I/O (io), G3 I/O (io), G12 I/O (io), G13 I/O (io), H1 I/O (io), H2 I/O (io), H3 I/O (io), H12 I/O (io), H13 I/O (io), J1 I/O (io), J2 I/O (io), J12 I/O (io), J13 I/O (io), K1 I/O (io), K3 I/O, GCK0 (io), K13 I/O (io), K14 I/O (io), L1 I/O (io), L2 I/O, GCK1 (io), L3 I/O (io), L12 I/O (io), L13 I/O (io), L14 I/O (io), M1 I/O (io), M2 I/O, CDRST (io), M3 I/O (io), M4 I/O (io), M5 I/O (io), M6 I/O (io), M7 I/O (io), M8 I/O (io), M11 I/O (io), M12 I/O (io), M13 I/O (io), M14 I/O (io), N2 I/O, GCK2 (io), N3 I/O (io), N4 I/O (io), N5 I/O (io), N6 I/O (io), N7 I/O (io), N8 I/O (io), N11 I/O (io), N13 I/O (io), N14 I/O (io), P2 I/O, DGE (io), P3 I/O (io), P5 I/O (io), P6 I/O (io), P8 I/O (io), P9 I/O (io), P10 I/O (io), P11 I/O (io), P12 I/O (io), P14 I/O (io)
part B pins: A2 VCC (power), A7 VCCIO2 (power), A9 GND (power), A14 VCCIO2 (power), B3 GND (power), B9 TDO (hiz), B14 GND (power), C4 VCCIO2 (power), D3 VAUX (power), E14 GND (power), G14 VCCIO1 (power), H14 GND (power), J3 VCCIO1 (power), J14 GND (power), K2 GND (power), K12 VCC (power), M9 TDI (in), M10 TCK (in), N1 GND (power), N9 GND (power), N10 TMS (in), N12 GND (power), P1 VCC (power), P4 GND (power), P7 VCCIO1 (power), P13 VCCIO1 (power)

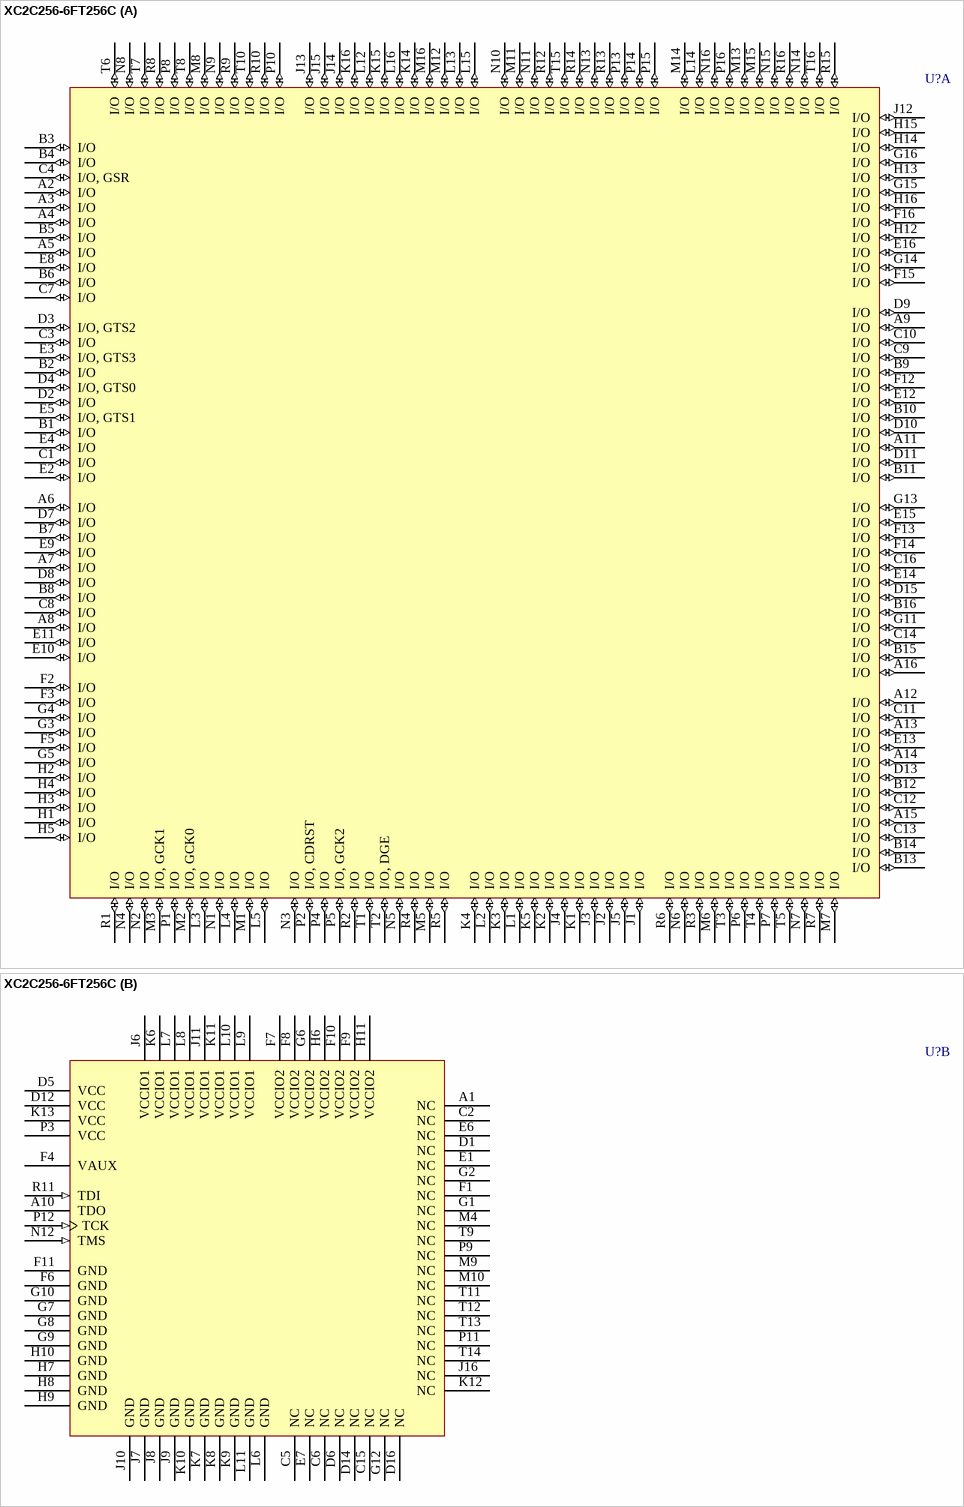
[diagram p12: symbol XC2C256-6FT256C]

## XC2C256-6FT256C
designator U?
CoolRunner-II, 1.8V, 256 Macrocell CPLD, 256-Ball FTBGA, Commercial Grade; PackageDocument: ver1.0, Apr-2001; Published: 23-Sep-2002; DatasheetDocument: ver2.3, Feb-2004; PackageReference: FT256; Publisher: Altium Limited; Code_JEDEC: MS-034-AAF-1*
footprint FT256 (256-Ball Fine Pitch Thin Ball Grid Array (FT256))
3D model XC2C256-FT256 (256-Ball Fine Pitch Thin Ball Grid Array (FT256))
signal-integrity model XC2C256_FT256 (CoolRunner-II)
part A pins: A2 I/O (io), A3 I/O (io), A4 I/O (io), A5 I/O (io), A6 I/O (io), A7 I/O (io), A8 I/O (io), A9 I/O (io), A11 I/O (io), A12 I/O (io), A13 I/O (io), A14 I/O (io), A15 I/O (io), A16 I/O (io), B1 I/O (io), B2 I/O (io), B3 I/O (io), B4 I/O (io), B5 I/O (io), B6 I/O (io), B7 I/O (io), B8 I/O (io), B9 I/O (io), B10 I/O (io), B11 I/O (io), B12 I/O (io), B13 I/O (io), B14 I/O (io), B15 I/O (io), B16 I/O (io), C1 I/O (io), C3 I/O (io), C4 I/O, GSR (io), C7 I/O (io), C8 I/O (io), C9 I/O (io), C10 I/O (io), C11 I/O (io), C12 I/O (io), C13 I/O (io), C14 I/O (io), C16 I/O (io), D2 I/O (io), D3 I/O, GTS2 (io), D4 I/O, GTS0 (io), D7 I/O (io), D8 I/O (io), D9 I/O (io), D10 I/O (io), D11 I/O (io), D13 I/O (io), D15 I/O (io), E2 I/O (io), E3 I/O, GTS3 (io), E4 I/O (io), E5 I/O, GTS1 (io), E8 I/O (io), E9 I/O (io), E10 I/O (io), E11 I/O (io), E12 I/O (io), E13 I/O (io), E14 I/O (io), E15 I/O (io), E16 I/O (io), F2 I/O (io), F3 I/O (io), F5 I/O (io), F12 I/O (io), F13 I/O (io), F14 I/O (io), F15 I/O (io), F16 I/O (io), G3 I/O (io), G4 I/O (io), G5 I/O (io), G11 I/O (io), G13 I/O (io), G14 I/O (io), G15 I/O (io), G16 I/O (io), H1 I/O (io), H2 I/O (io), H3 I/O (io), H4 I/O (io), H5 I/O (io), H12 I/O (io), H13 I/O (io), H14 I/O (io), H15 I/O (io), H16 I/O (io), J1 I/O (io), J2 I/O (io), J3 I/O (io), J4 I/O (io), J5 I/O (io), J12 I/O (io), J13 I/O (io), J14 I/O (io), J15 I/O (io), K1 I/O (io), K2 I/O (io), K3 I/O (io), K4 I/O (io), K5 I/O (io), K14 I/O (io), K15 I/O (io), K16 I/O (io), L1 I/O (io), L2 I/O (io), L3 I/O (io), L4 I/O (io), L5 I/O (io), L12 I/O (io), L13 I/O (io), L14 I/O (io), L15 I/O (io), L16 I/O (io), M1 I/O (io), M2 I/O, GCK0 (io), M3 I/O, GCK1 (io), M5 I/O (io), M6 I/O (io), M7 I/O (io), M8 I/O (io), M11 I/O (io), M12 I/O (io), M13 I/O (io), M14 I/O (io), M15 I/O (io), M16 I/O (io), N1 I/O (io), N2 I/O (io), N3 I/O (io), N4 I/O (io), N5 I/O (io), N6 I/O (io), N7 I/O (io), N8 I/O (io), N9 I/O (io), N10 I/O (io), N11 I/O (io), N13 I/O (io), N14 I/O (io), N15 I/O (io), N16 I/O (io), P1 I/O (io), P2 I/O, CDRST (io), P4 I/O (io), P5 I/O, GCK2 (io), P6 I/O (io), P7 I/O (io), P8 I/O (io), P10 I/O (io), P13 I/O (io), P14 I/O (io), P15 I/O (io), P16 I/O (io), R1 I/O (io), R2 I/O (io), R3 I/O (io), R4 I/O (io), R5 I/O (io), R6 I/O (io), R7 I/O (io), R8 I/O (io), R9 I/O (io), R10 I/O (io), R12 I/O (io), R13 I/O (io), R14 I/O (io), R15 I/O (io), R16 I/O (io), T1 I/O (io), T2 I/O, DGE (io), T3 I/O (io), T4 I/O (io), T5 I/O (io), T6 I/O (io), T7 I/O (io), T8 I/O (io), T10 I/O (io), T15 I/O (io), T16 I/O (io)
part B pins: A1 NC, A10 TDO (hiz), C2 NC, C5 NC, C6 NC, C15 NC, D1 NC, D5 VCC (power), D6 NC, D12 VCC (power), D14 NC, D16 NC, E1 NC, E6 NC, E7 NC, F1 NC, F4 VAUX (power), F6 GND (power), F7 VCCIO2 (power), F8 VCCIO2 (power), F9 VCCIO2 (power), F10 VCCIO2 (power), F11 GND (power), G1 NC, G2 NC, G6 VCCIO2 (power), G7 GND (power), G8 GND (power), G9 GND (power), G10 GND (power), G12 NC, H6 VCCIO2 (power), H7 GND (power), H8 GND (power), H9 GND (power), H10 GND (power), H11 VCCIO2 (power), J6 VCCIO1 (power), J7 GND (power), J8 GND (power), J9 GND (power), J10 GND (power), J11 VCCIO1 (power), J16 NC, K6 VCCIO1 (power), K7 GND (power), K8 GND (power), K9 GND (power), K10 GND (power), K11 VCCIO1 (power), K12 NC, K13 VCC (power), L6 GND (power), L7 VCCIO1 (power), L8 VCCIO1 (power), L9 VCCIO1 (power), L10 VCCIO1 (power), L11 GND (power), M4 NC, M9 NC, M10 NC, N12 TMS (in), P3 VCC (power), P9 NC, P11 NC, P12 TCK (in), R11 TDI (in), T9 NC, T11 NC, T12 NC, T13 NC, T14 NC

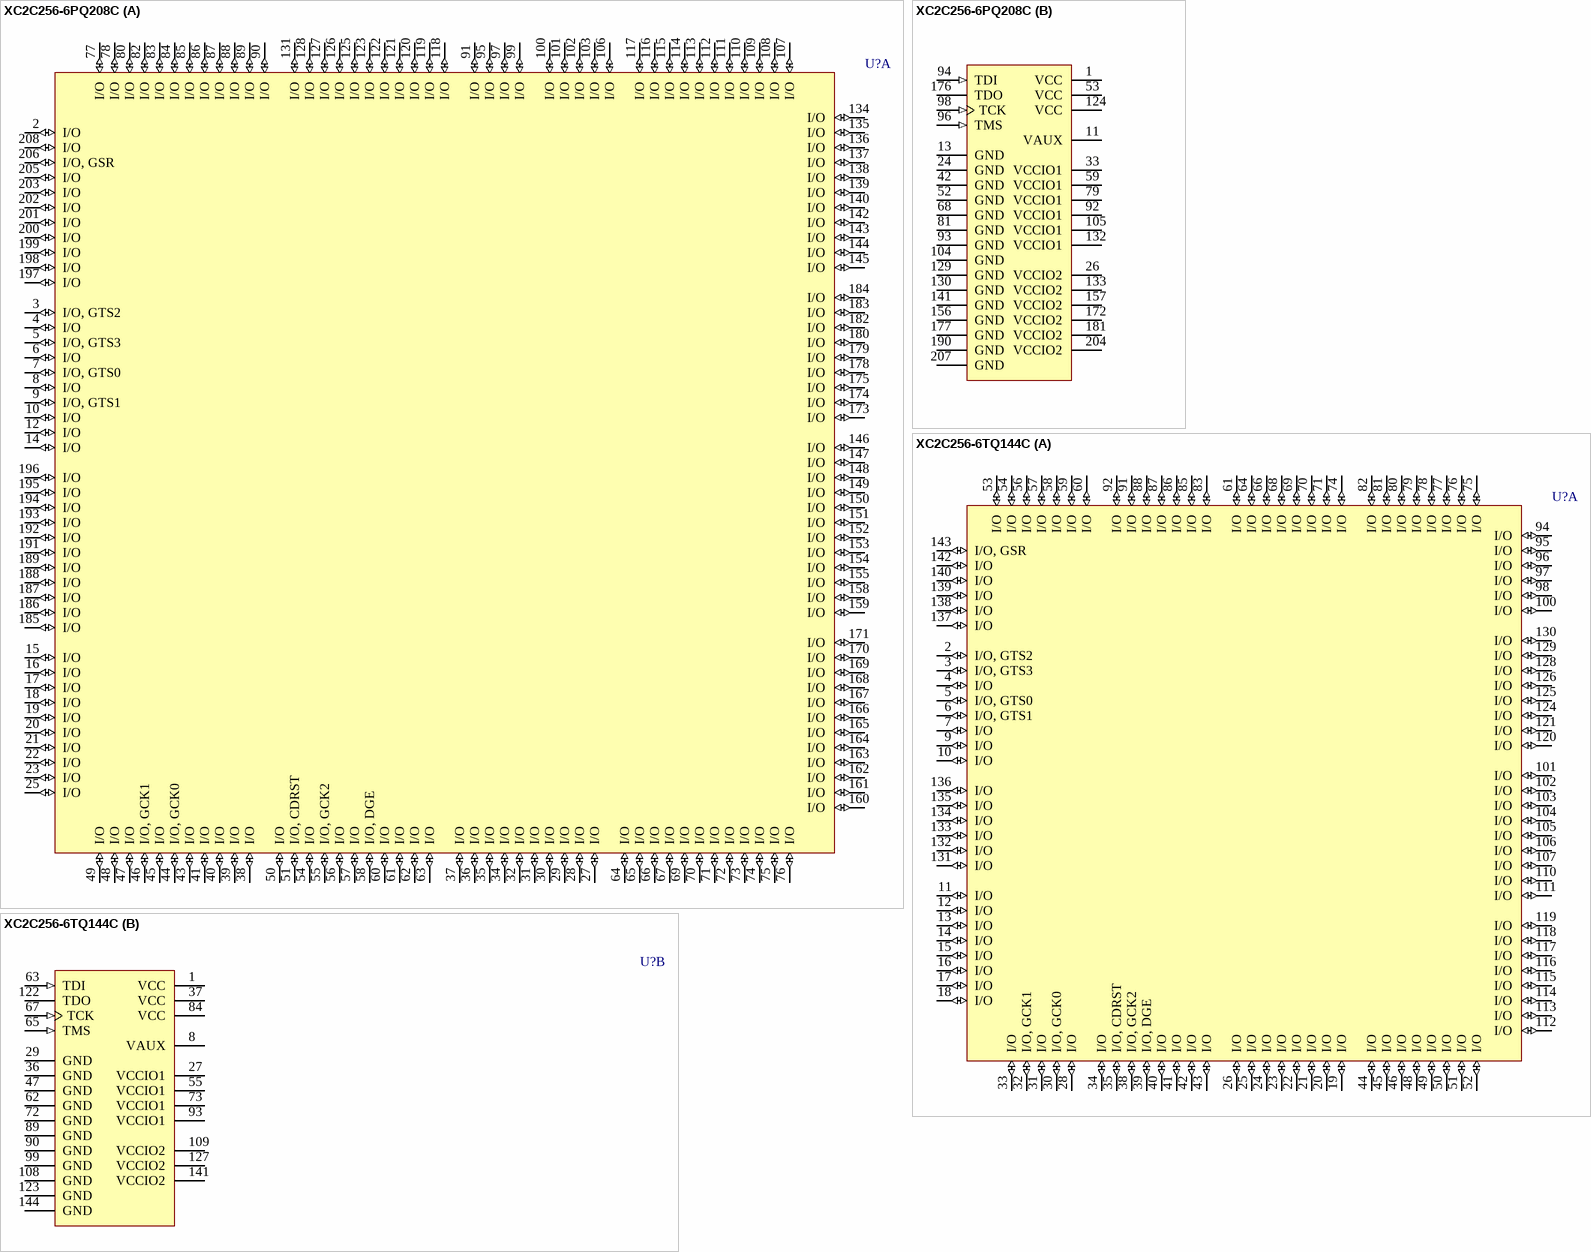
[diagram p13: symbols XC2C256-6PQ208C to XC2C256-6TQ144C]

## XC2C256-6PQ208C
designator U?
CoolRunner-II, 1.8V, 256 Macrocell CPLD, 208-Pin PQFP, Commercial Grade; PackageDocument: ver1.1, Oct-2002; Published: 23-Sep-2002; DatasheetDocument: ver2.3, Feb-2004; PackageReference: PQ208; Publisher: Altium Limited; Code_JEDEC: MS-029-FA-1
footprint PQ208 (208-Pin Plastic Quad Flat Pack (PQ208))
3D model XC2C256-PQ208 (208-Pin Plastic Quad Flat Pack (PQ208))
signal-integrity model XC2C256_PQ208 (CoolRunner-II)
part A pins: 2 I/O (io), 3 I/O, GTS2 (io), 4 I/O (io), 5 I/O, GTS3 (io), 6 I/O (io), 7 I/O, GTS0 (io), 8 I/O (io), 9 I/O, GTS1 (io), 10 I/O (io), 12 I/O (io), 14 I/O (io), 15 I/O (io), 16 I/O (io), 17 I/O (io), 18 I/O (io), 19 I/O (io), 20 I/O (io), 21 I/O (io), 22 I/O (io), 23 I/O (io), 25 I/O (io), 27 I/O (io), 28 I/O (io), 29 I/O (io), 30 I/O (io), 31 I/O (io), 32 I/O (io), 34 I/O (io), 35 I/O (io), 36 I/O (io), 37 I/O (io), 38 I/O (io), 39 I/O (io), 40 I/O (io), 41 I/O (io), 43 I/O (io), 44 I/O, GCK0 (io), 45 I/O (io), 46 I/O, GCK1 (io), 47 I/O (io), 48 I/O (io), 49 I/O (io), 50 I/O (io), 51 I/O, CDRST (io), 54 I/O (io), 55 I/O, GCK2 (io), 56 I/O (io), 57 I/O (io), 58 I/O, DGE (io), 60 I/O (io), 61 I/O (io), 62 I/O (io), 63 I/O (io), 64 I/O (io), 65 I/O (io), 66 I/O (io), 67 I/O (io), 69 I/O (io), 70 I/O (io), 71 I/O (io), 72 I/O (io), 73 I/O (io), 74 I/O (io), 75 I/O (io), 76 I/O (io), 77 I/O (io), 78 I/O (io), 80 I/O (io), 82 I/O (io), 83 I/O (io), 84 I/O (io), 85 I/O (io), 86 I/O (io), 87 I/O (io), 88 I/O (io), 89 I/O (io), 90 I/O (io), 91 I/O (io), 95 I/O (io), 97 I/O (io), 99 I/O (io), 100 I/O (io), 101 I/O (io), 102 I/O (io), 103 I/O (io), 106 I/O (io), 107 I/O (io), 108 I/O (io), 109 I/O (io), 110 I/O (io), 111 I/O (io), 112 I/O (io), 113 I/O (io), 114 I/O (io), 115 I/O (io), 116 I/O (io), 117 I/O (io), 118 I/O (io), 119 I/O (io), 120 I/O (io), 121 I/O (io), 122 I/O (io), 123 I/O (io), 125 I/O (io), 126 I/O (io), 127 I/O (io), 128 I/O (io), 131 I/O (io), 134 I/O (io), 135 I/O (io), 136 I/O (io), 137 I/O (io), 138 I/O (io), 139 I/O (io), 140 I/O (io), 142 I/O (io), 143 I/O (io), 144 I/O (io), 145 I/O (io), 146 I/O (io), 147 I/O (io), 148 I/O (io), 149 I/O (io), 150 I/O (io), 151 I/O (io), 152 I/O (io), 153 I/O (io), 154 I/O (io), 155 I/O (io), 158 I/O (io), 159 I/O (io), 160 I/O (io), 161 I/O (io), 162 I/O (io), 163 I/O (io), 164 I/O (io), 165 I/O (io), 166 I/O (io), 167 I/O (io), 168 I/O (io), 169 I/O (io), 170 I/O (io), 171 I/O (io), 173 I/O (io), 174 I/O (io), 175 I/O (io), 178 I/O (io), 179 I/O (io), 180 I/O (io), 182 I/O (io), 183 I/O (io), 184 I/O (io), 185 I/O (io), 186 I/O (io), 187 I/O (io), 188 I/O (io), 189 I/O (io), 191 I/O (io), 192 I/O (io), 193 I/O (io), 194 I/O (io), 195 I/O (io), 196 I/O (io), 197 I/O (io), 198 I/O (io), 199 I/O (io), 200 I/O (io), 201 I/O (io), 202 I/O (io), 203 I/O (io), 205 I/O (io), 206 I/O, GSR (io), 208 I/O (io)
part B pins: 1 VCC (power), 11 VAUX (power), 13 GND (power), 24 GND (power), 26 VCCIO2 (power), 33 VCCIO1 (power), 42 GND (power), 52 GND (power), 53 VCC (power), 59 VCCIO1 (power), 68 GND (power), 79 VCCIO1 (power), 81 GND (power), 92 VCCIO1 (power), 93 GND (power), 94 TDI (in), 96 TMS (in), 98 TCK (in), 104 GND (power), 105 VCCIO1 (power), 124 VCC (power), 129 GND (power), 130 GND (power), 132 VCCIO1 (power), 133 VCCIO2 (power), 141 GND (power), 156 GND (power), 157 VCCIO2 (power), 172 VCCIO2 (power), 176 TDO (hiz), 177 GND (power), 181 VCCIO2 (power), 190 GND (power), 204 VCCIO2 (power), 207 GND (power)

## XC2C256-6TQ144C
designator U?
CoolRunner-II, 1.8V, 256 Macrocell CPLD, 144-Pin TQFP, Commercial Grade; PackageDocument: ver1.1, Oct-2002; Published: 23-Sep-2002; DatasheetDocument: ver2.3, Feb-2004; PackageReference: TQ144; Publisher: Altium Limited; Code_JEDEC: MS-026-BFB; Code_IPC: SQFP20X20-144
footprint TQ144 (144-Pin Thin Quad Flat Pack (TQ144))
3D model XC2C256-TQ144 (144-Pin Thin Quad Flat Pack (TQ144))
signal-integrity model XC2C256_TQ144 (CoolRunner-II)
part A pins: 2 I/O, GTS2 (io), 3 I/O, GTS3 (io), 4 I/O (io), 5 I/O, GTS0 (io), 6 I/O, GTS1 (io), 7 I/O (io), 9 I/O (io), 10 I/O (io), 11 I/O (io), 12 I/O (io), 13 I/O (io), 14 I/O (io), 15 I/O (io), 16 I/O (io), 17 I/O (io), 18 I/O (io), 19 I/O (io), 20 I/O (io), 21 I/O (io), 22 I/O (io), 23 I/O (io), 24 I/O (io), 25 I/O (io), 26 I/O (io), 28 I/O (io), 30 I/O, GCK0 (io), 31 I/O (io), 32 I/O, GCK1 (io), 33 I/O (io), 34 I/O (io), 35 I/O, CDRST (io), 38 I/O, GCK2 (io), 39 I/O, DGE (io), 40 I/O (io), 41 I/O (io), 42 I/O (io), 43 I/O (io), 44 I/O (io), 45 I/O (io), 46 I/O (io), 48 I/O (io), 49 I/O (io), 50 I/O (io), 51 I/O (io), 52 I/O (io), 53 I/O (io), 54 I/O (io), 56 I/O (io), 57 I/O (io), 58 I/O (io), 59 I/O (io), 60 I/O (io), 61 I/O (io), 64 I/O (io), 66 I/O (io), 68 I/O (io), 69 I/O (io), 70 I/O (io), 71 I/O (io), 74 I/O (io), 75 I/O (io), 76 I/O (io), 77 I/O (io), 78 I/O (io), 79 I/O (io), 80 I/O (io), 81 I/O (io), 82 I/O (io), 83 I/O (io), 85 I/O (io), 86 I/O (io), 87 I/O (io), 88 I/O (io), 91 I/O (io), 92 I/O (io), 94 I/O (io), 95 I/O (io), 96 I/O (io), 97 I/O (io), 98 I/O (io), 100 I/O (io), 101 I/O (io), 102 I/O (io), 103 I/O (io), 104 I/O (io), 105 I/O (io), 106 I/O (io), 107 I/O (io), 110 I/O (io), 111 I/O (io), 112 I/O (io), 113 I/O (io), 114 I/O (io), 115 I/O (io), 116 I/O (io), 117 I/O (io), 118 I/O (io), 119 I/O (io), 120 I/O (io), 121 I/O (io), 124 I/O (io), 125 I/O (io), 126 I/O (io), 128 I/O (io), 129 I/O (io), 130 I/O (io), 131 I/O (io), 132 I/O (io), 133 I/O (io), 134 I/O (io), 135 I/O (io), 136 I/O (io), 137 I/O (io), 138 I/O (io), 139 I/O (io), 140 I/O (io), 142 I/O (io), 143 I/O, GSR (io)
part B pins: 1 VCC (power), 8 VAUX (power), 27 VCCIO1 (power), 29 GND (power), 36 GND (power), 37 VCC (power), 47 GND (power), 55 VCCIO1 (power), 62 GND (power), 63 TDI (in), 65 TMS (in), 67 TCK (in), 72 GND (power), 73 VCCIO1 (power), 84 VCC (power), 89 GND (power), 90 GND (power), 93 VCCIO1 (power), 99 GND (power), 108 GND (power), 109 VCCIO2 (power), 122 TDO (hiz), 123 GND (power), 127 VCCIO2 (power), 141 VCCIO2 (power), 144 GND (power)

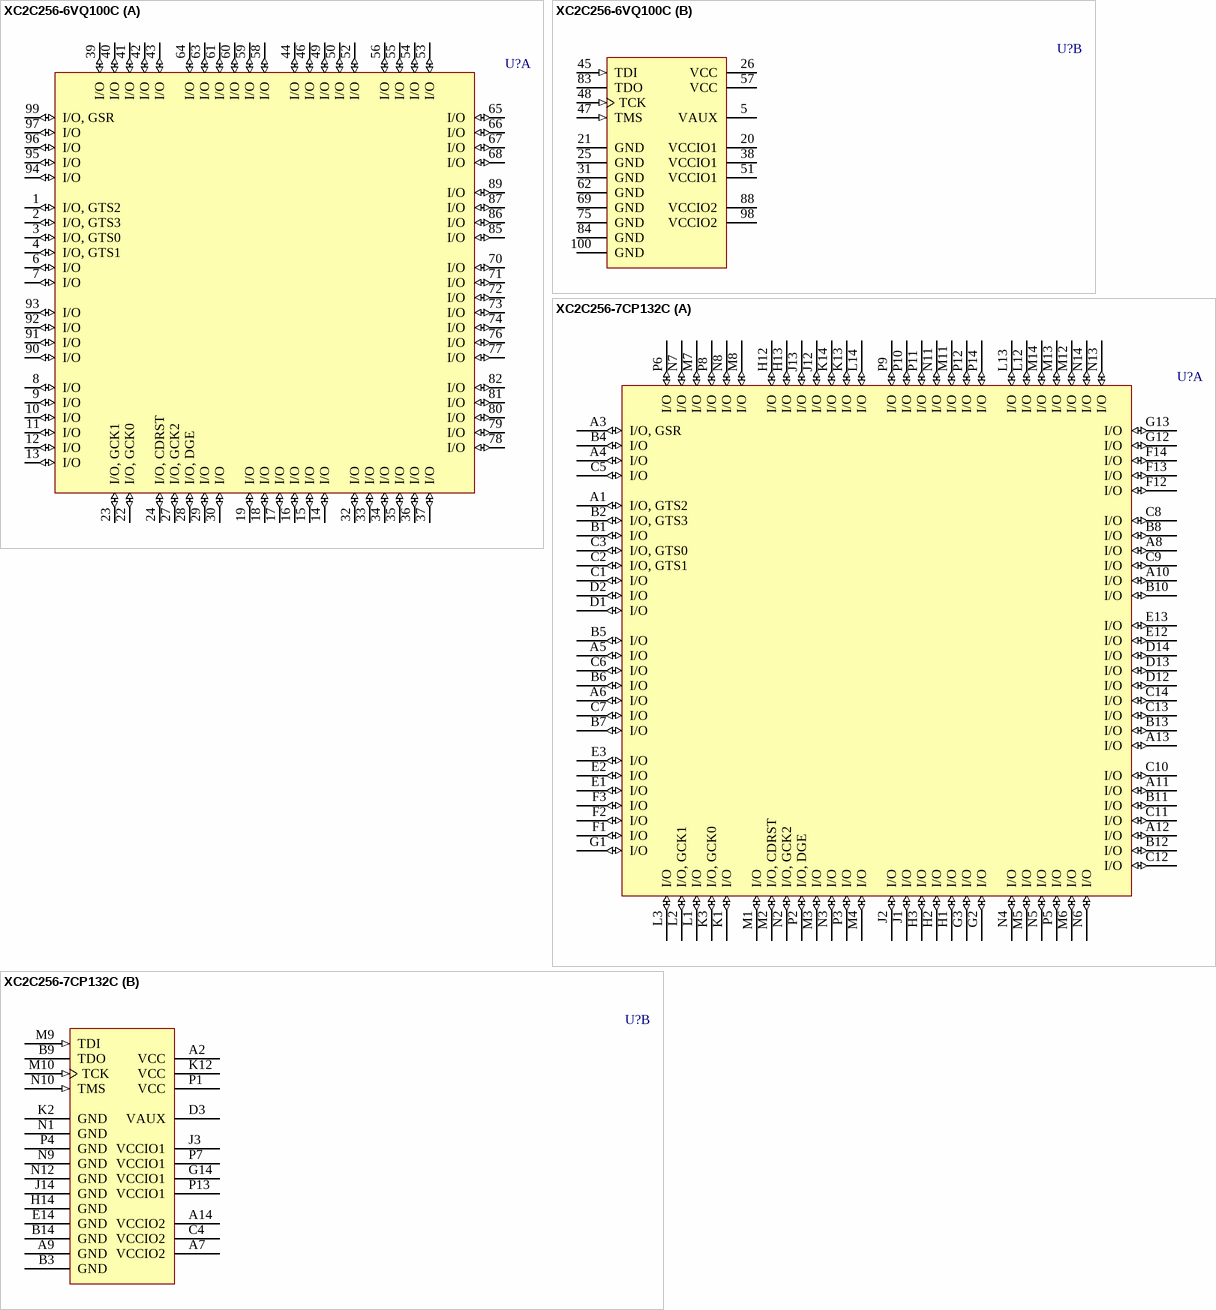
[diagram p14: symbols XC2C256-6VQ100C to XC2C256-7CP132C]

## XC2C256-6VQ100C
designator U?
CoolRunner-II, 1.8V, 256 Macrocell CPLD, 100-Pin VQFP, Commercial Grade; PackageDocument: ver1.1, Oct-2002; Published: 23-Sep-2002; DatasheetDocument: ver2.3, Feb-2004; PackageReference: VQ100; Publisher: Altium Limited; Code_JEDEC: MS-026-AED; Code_IPC: SQFP14X14-100
footprint VQ100 (100-Pin Very Thin Quad Flat Pack (VQ100))
3D model XC2C256-VQ100 (100-Pin Very Thin Quad Flat Pack (VQ100))
signal-integrity model XC2C256_VQ100 (CoolRunner-II)
part A pins: 1 I/O, GTS2 (io), 2 I/O, GTS3 (io), 3 I/O, GTS0 (io), 4 I/O, GTS1 (io), 6 I/O (io), 7 I/O (io), 8 I/O (io), 9 I/O (io), 10 I/O (io), 11 I/O (io), 12 I/O (io), 13 I/O (io), 14 I/O (io), 15 I/O (io), 16 I/O (io), 17 I/O (io), 18 I/O (io), 19 I/O (io), 22 I/O, GCK0 (io), 23 I/O, GCK1 (io), 24 I/O, CDRST (io), 27 I/O, GCK2 (io), 28 I/O, DGE (io), 29 I/O (io), 30 I/O (io), 32 I/O (io), 33 I/O (io), 34 I/O (io), 35 I/O (io), 36 I/O (io), 37 I/O (io), 39 I/O (io), 40 I/O (io), 41 I/O (io), 42 I/O (io), 43 I/O (io), 44 I/O (io), 46 I/O (io), 49 I/O (io), 50 I/O (io), 52 I/O (io), 53 I/O (io), 54 I/O (io), 55 I/O (io), 56 I/O (io), 58 I/O (io), 59 I/O (io), 60 I/O (io), 61 I/O (io), 63 I/O (io), 64 I/O (io), 65 I/O (io), 66 I/O (io), 67 I/O (io), 68 I/O (io), 70 I/O (io), 71 I/O (io), 72 I/O (io), 73 I/O (io), 74 I/O (io), 76 I/O (io), 77 I/O (io), 78 I/O (io), 79 I/O (io), 80 I/O (io), 81 I/O (io), 82 I/O (io), 85 I/O (io), 86 I/O (io), 87 I/O (io), 89 I/O (io), 90 I/O (io), 91 I/O (io), 92 I/O (io), 93 I/O (io), 94 I/O (io), 95 I/O (io), 96 I/O (io), 97 I/O (io), 99 I/O, GSR (io)
part B pins: 5 VAUX (power), 20 VCCIO1 (power), 21 GND (power), 25 GND (power), 26 VCC (power), 31 GND (power), 38 VCCIO1 (power), 45 TDI (in), 47 TMS (in), 48 TCK (in), 51 VCCIO1 (power), 57 VCC (power), 62 GND (power), 69 GND (power), 75 GND (power), 83 TDO (hiz), 84 GND (power), 88 VCCIO2 (power), 98 VCCIO2 (power), 100 GND (power)

## XC2C256-7CP132C
designator U?
CoolRunner-II, 1.8V, 256 Macrocell CPLD, 132-Ball CSP, Commercial Grade; PackageDocument: ver1.2, Apr-2002; Published: 23-Sep-2002; DatasheetDocument: ver2.3, Feb-2004; PackageReference: CP132; Publisher: Altium Limited
footprint CP132 (132-Ball Chip Scale Ball Grid Array 0.5mm Pitch (CP132))
3D model XC2C256-CP132 (132-Ball Chip Scale Ball Grid Array 0.5mm Pitch (CP132))
signal-integrity model XC2C256_CP132 (CoolRunner-II)
part A pins: A1 I/O, GTS2 (io), A3 I/O, GSR (io), A4 I/O (io), A5 I/O (io), A6 I/O (io), A8 I/O (io), A10 I/O (io), A11 I/O (io), A12 I/O (io), A13 I/O (io), B1 I/O (io), B2 I/O, GTS3 (io), B4 I/O (io), B5 I/O (io), B6 I/O (io), B7 I/O (io), B8 I/O (io), B10 I/O (io), B11 I/O (io), B12 I/O (io), B13 I/O (io), C1 I/O (io), C2 I/O, GTS1 (io), C3 I/O, GTS0 (io), C5 I/O (io), C6 I/O (io), C7 I/O (io), C8 I/O (io), C9 I/O (io), C10 I/O (io), C11 I/O (io), C12 I/O (io), C13 I/O (io), C14 I/O (io), D1 I/O (io), D2 I/O (io), D12 I/O (io), D13 I/O (io), D14 I/O (io), E1 I/O (io), E2 I/O (io), E3 I/O (io), E12 I/O (io), E13 I/O (io), F1 I/O (io), F2 I/O (io), F3 I/O (io), F12 I/O (io), F13 I/O (io), F14 I/O (io), G1 I/O (io), G2 I/O (io), G3 I/O (io), G12 I/O (io), G13 I/O (io), H1 I/O (io), H2 I/O (io), H3 I/O (io), H12 I/O (io), H13 I/O (io), J1 I/O (io), J2 I/O (io), J12 I/O (io), J13 I/O (io), K1 I/O (io), K3 I/O, GCK0 (io), K13 I/O (io), K14 I/O (io), L1 I/O (io), L2 I/O, GCK1 (io), L3 I/O (io), L12 I/O (io), L13 I/O (io), L14 I/O (io), M1 I/O (io), M2 I/O, CDRST (io), M3 I/O (io), M4 I/O (io), M5 I/O (io), M6 I/O (io), M7 I/O (io), M8 I/O (io), M11 I/O (io), M12 I/O (io), M13 I/O (io), M14 I/O (io), N2 I/O, GCK2 (io), N3 I/O (io), N4 I/O (io), N5 I/O (io), N6 I/O (io), N7 I/O (io), N8 I/O (io), N11 I/O (io), N13 I/O (io), N14 I/O (io), P2 I/O, DGE (io), P3 I/O (io), P5 I/O (io), P6 I/O (io), P8 I/O (io), P9 I/O (io), P10 I/O (io), P11 I/O (io), P12 I/O (io), P14 I/O (io)
part B pins: A2 VCC (power), A7 VCCIO2 (power), A9 GND (power), A14 VCCIO2 (power), B3 GND (power), B9 TDO (hiz), B14 GND (power), C4 VCCIO2 (power), D3 VAUX (power), E14 GND (power), G14 VCCIO1 (power), H14 GND (power), J3 VCCIO1 (power), J14 GND (power), K2 GND (power), K12 VCC (power), M9 TDI (in), M10 TCK (in), N1 GND (power), N9 GND (power), N10 TMS (in), N12 GND (power), P1 VCC (power), P4 GND (power), P7 VCCIO1 (power), P13 VCCIO1 (power)

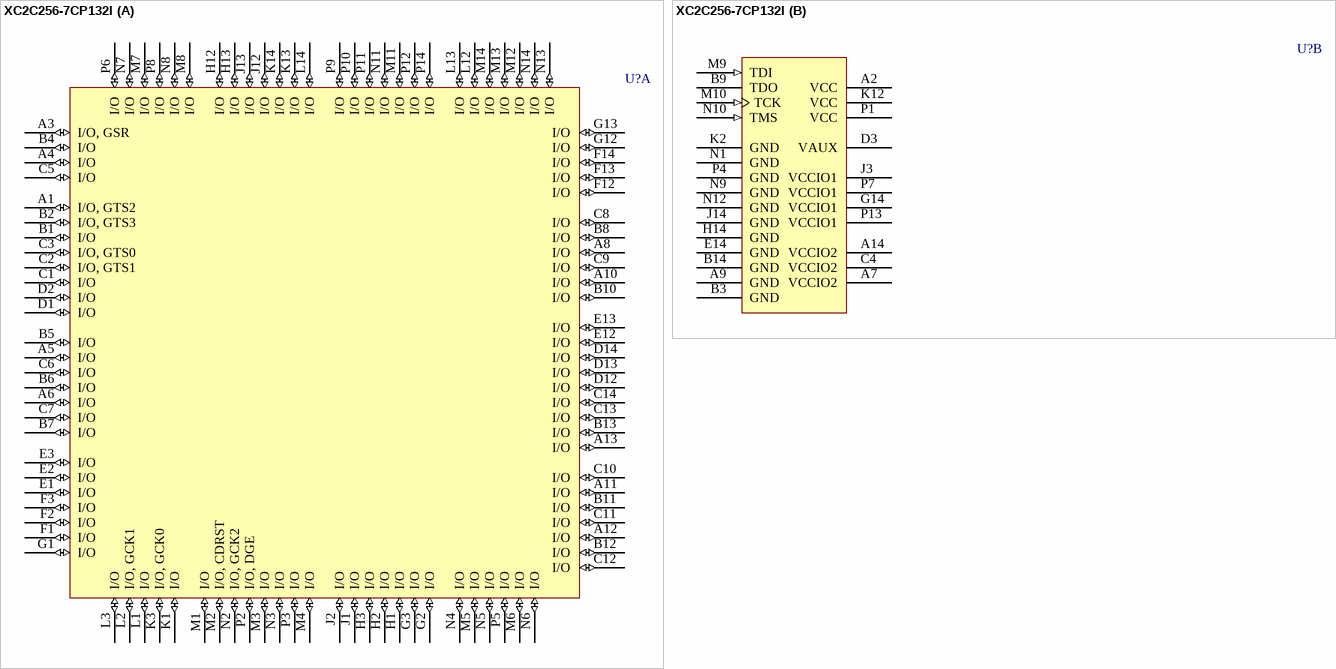
[diagram p15: symbol XC2C256-7CP132I]

## XC2C256-7CP132I
designator U?
CoolRunner-II, 1.8V, 256 Macrocell CPLD, 132-Ball CSP, Industrial Grade; PackageDocument: ver1.2, Apr-2002; Published: 23-Sep-2002; DatasheetDocument: ver2.3, Feb-2004; PackageReference: CP132; Publisher: Altium Limited
footprint CP132 (132-Ball Chip Scale Ball Grid Array 0.5mm Pitch (CP132))
3D model XC2C256-CP132 (132-Ball Chip Scale Ball Grid Array 0.5mm Pitch (CP132))
signal-integrity model XC2C256_CP132 (CoolRunner-II)
part A pins: A1 I/O, GTS2 (io), A3 I/O, GSR (io), A4 I/O (io), A5 I/O (io), A6 I/O (io), A8 I/O (io), A10 I/O (io), A11 I/O (io), A12 I/O (io), A13 I/O (io), B1 I/O (io), B2 I/O, GTS3 (io), B4 I/O (io), B5 I/O (io), B6 I/O (io), B7 I/O (io), B8 I/O (io), B10 I/O (io), B11 I/O (io), B12 I/O (io), B13 I/O (io), C1 I/O (io), C2 I/O, GTS1 (io), C3 I/O, GTS0 (io), C5 I/O (io), C6 I/O (io), C7 I/O (io), C8 I/O (io), C9 I/O (io), C10 I/O (io), C11 I/O (io), C12 I/O (io), C13 I/O (io), C14 I/O (io), D1 I/O (io), D2 I/O (io), D12 I/O (io), D13 I/O (io), D14 I/O (io), E1 I/O (io), E2 I/O (io), E3 I/O (io), E12 I/O (io), E13 I/O (io), F1 I/O (io), F2 I/O (io), F3 I/O (io), F12 I/O (io), F13 I/O (io), F14 I/O (io), G1 I/O (io), G2 I/O (io), G3 I/O (io), G12 I/O (io), G13 I/O (io), H1 I/O (io), H2 I/O (io), H3 I/O (io), H12 I/O (io), H13 I/O (io), J1 I/O (io), J2 I/O (io), J12 I/O (io), J13 I/O (io), K1 I/O (io), K3 I/O, GCK0 (io), K13 I/O (io), K14 I/O (io), L1 I/O (io), L2 I/O, GCK1 (io), L3 I/O (io), L12 I/O (io), L13 I/O (io), L14 I/O (io), M1 I/O (io), M2 I/O, CDRST (io), M3 I/O (io), M4 I/O (io), M5 I/O (io), M6 I/O (io), M7 I/O (io), M8 I/O (io), M11 I/O (io), M12 I/O (io), M13 I/O (io), M14 I/O (io), N2 I/O, GCK2 (io), N3 I/O (io), N4 I/O (io), N5 I/O (io), N6 I/O (io), N7 I/O (io), N8 I/O (io), N11 I/O (io), N13 I/O (io), N14 I/O (io), P2 I/O, DGE (io), P3 I/O (io), P5 I/O (io), P6 I/O (io), P8 I/O (io), P9 I/O (io), P10 I/O (io), P11 I/O (io), P12 I/O (io), P14 I/O (io)
part B pins: A2 VCC (power), A7 VCCIO2 (power), A9 GND (power), A14 VCCIO2 (power), B3 GND (power), B9 TDO (hiz), B14 GND (power), C4 VCCIO2 (power), D3 VAUX (power), E14 GND (power), G14 VCCIO1 (power), H14 GND (power), J3 VCCIO1 (power), J14 GND (power), K2 GND (power), K12 VCC (power), M9 TDI (in), M10 TCK (in), N1 GND (power), N9 GND (power), N10 TMS (in), N12 GND (power), P1 VCC (power), P4 GND (power), P7 VCCIO1 (power), P13 VCCIO1 (power)

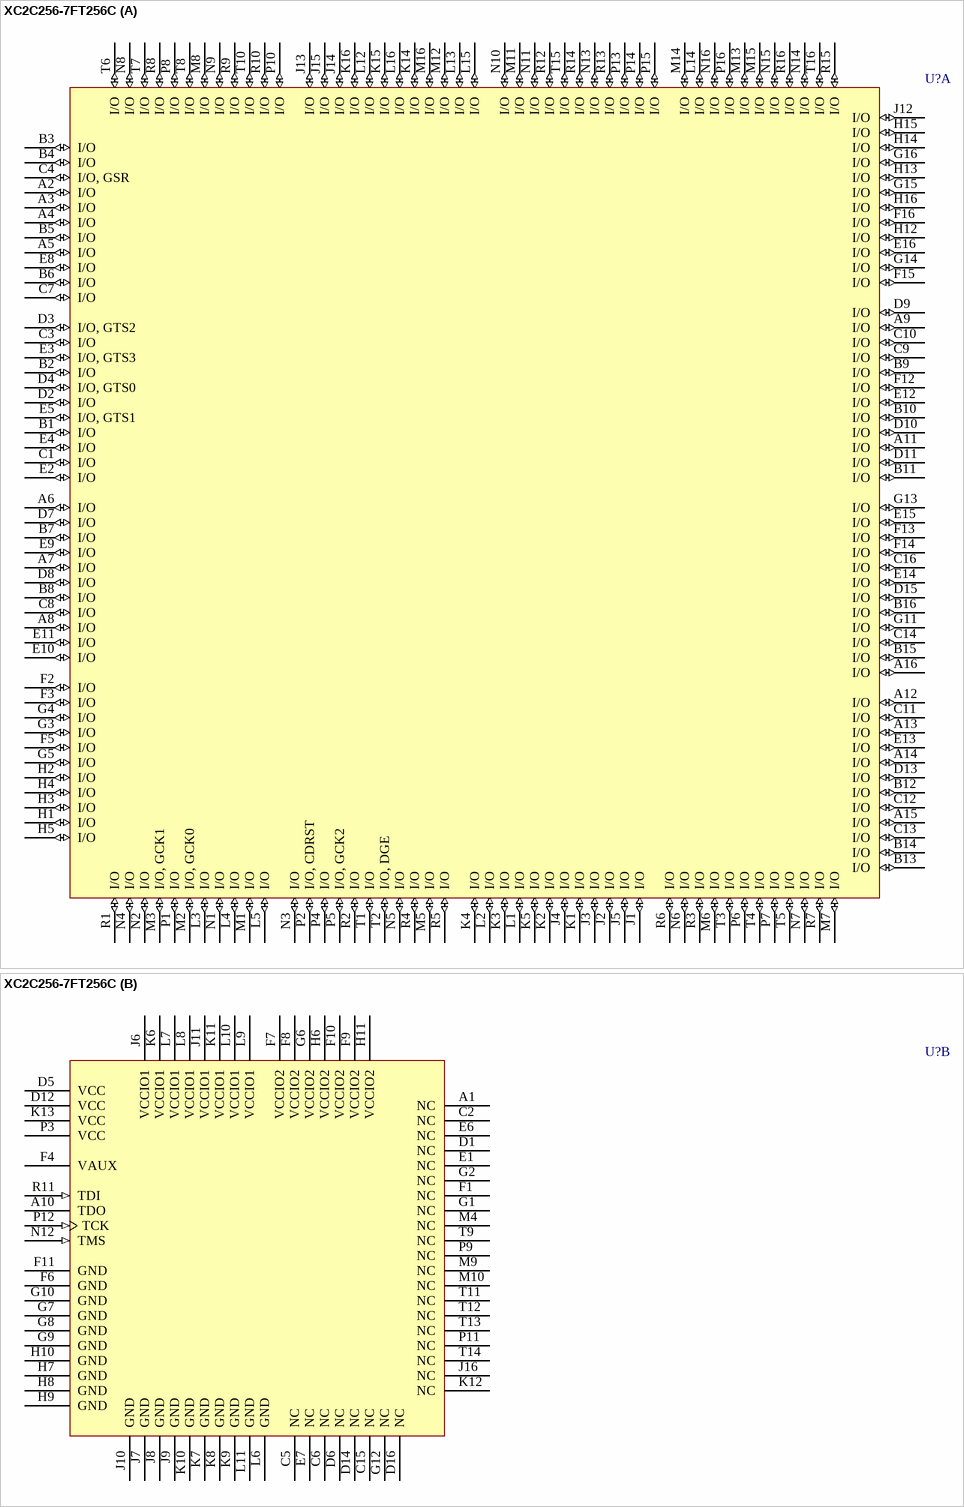
[diagram p16: symbol XC2C256-7FT256C]